# Altium integrated library con-wago.IntLib: 193 symbols (part 1 of 2)
Pins are listed as number, name and electrical type; pins without a type are passive.

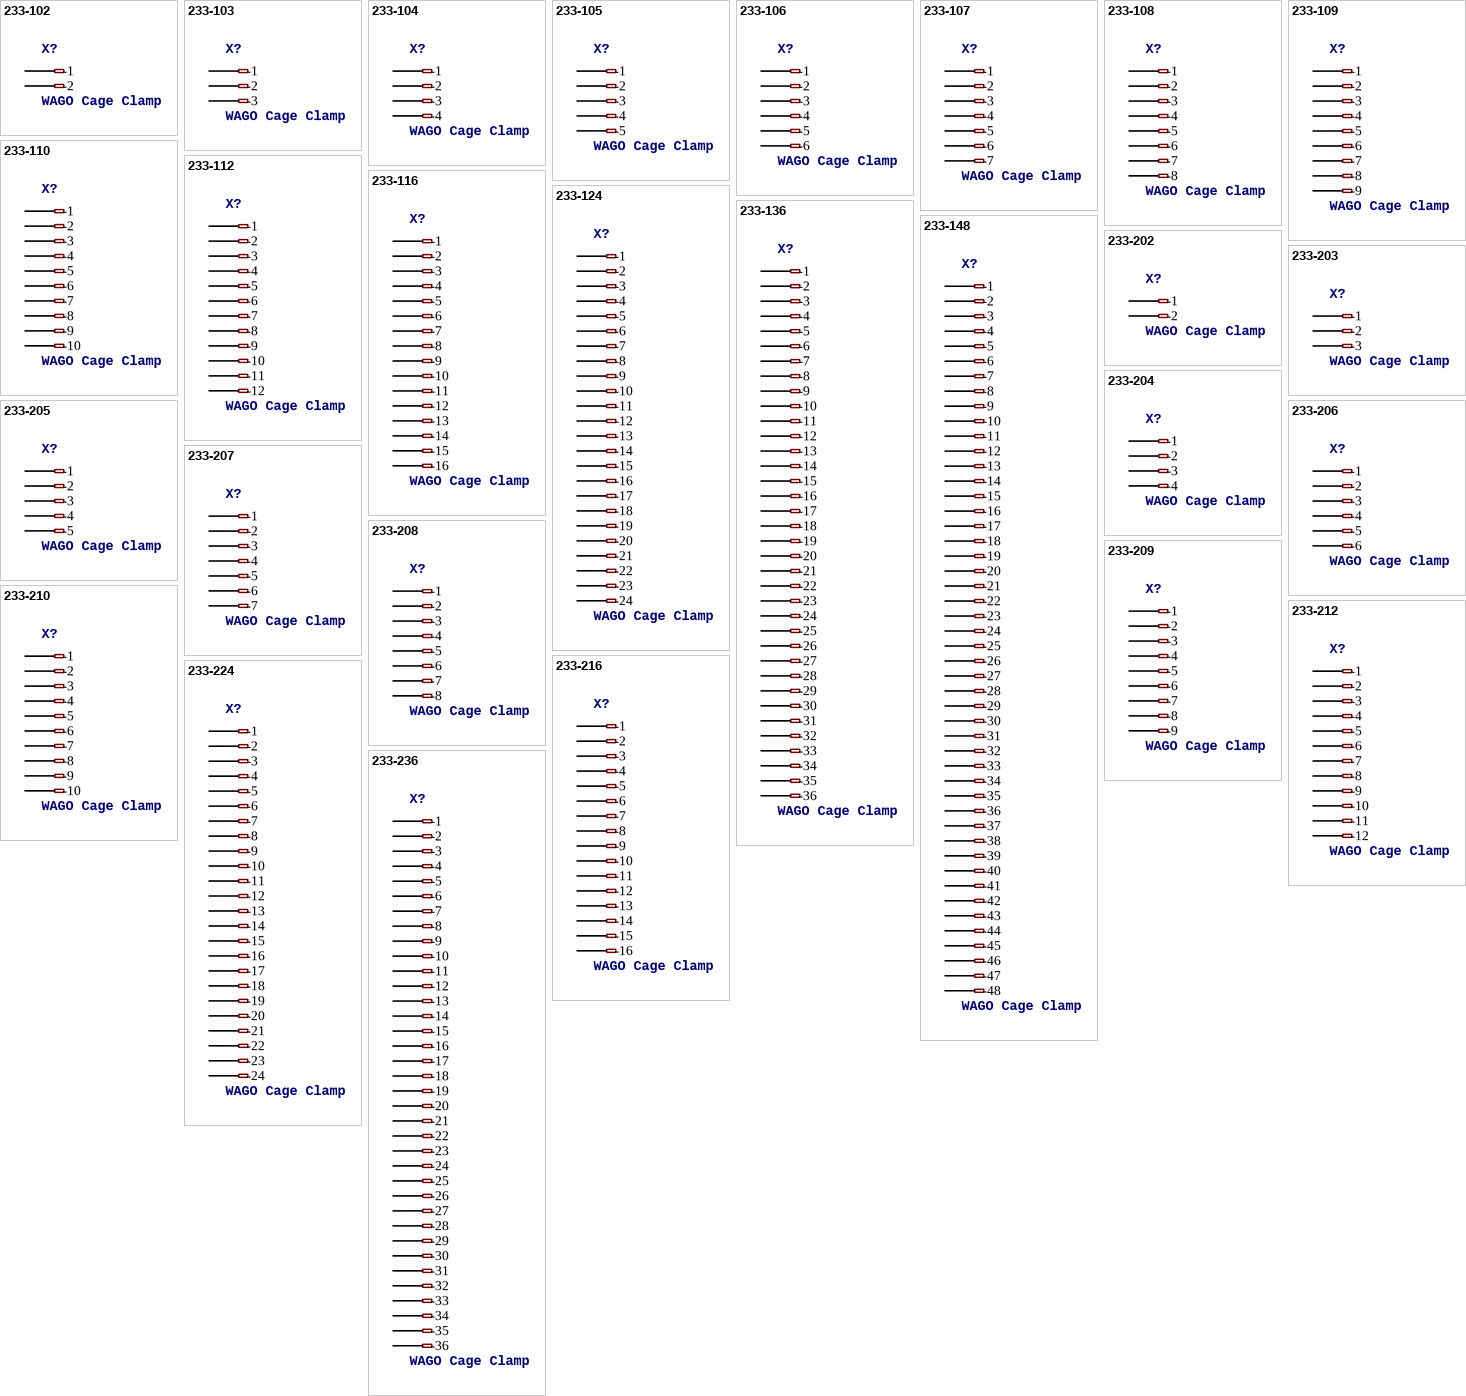
[diagram p0: symbols 233-102 to 233-236]

## 233-102
designator X?, comment WAGO Cage Clamp
MPN: 233-102; OC_FARNELL: unknown; OC_NEWARK: 28K9044
footprint 233-102
pins: A1 -1, A2 -2, B1 B-1, B2 B-2

## 233-103
designator X?, comment WAGO Cage Clamp
MPN: 233-103; OC_FARNELL: unknown; OC_NEWARK: 28K9045
footprint 233-103
pins: A1 -1, A2 -2, A3 -3, B1 B-1, B2 B-2, B3 B-3

## 233-104
designator X?, comment WAGO Cage Clamp
MPN: 233-104; OC_FARNELL: unknown; OC_NEWARK: 28K9046
footprint 233-104
pins: A1 -1, A2 -2, A3 -3, A4 -4, B1 B-1, B2 B-2, B3 B-3, B4 B-4

## 233-105
designator X?, comment WAGO Cage Clamp
MPN: 233-105; OC_FARNELL: unknown; OC_NEWARK: 28K9047
footprint 233-105
pins: A1 -1, A2 -2, A3 -3, A4 -4, A5 -5, B1 B-1, B2 B-2, B3 B-3, B4 B-4, B5 B-5

## 233-106
designator X?, comment WAGO Cage Clamp
MPN: 233-106; OC_FARNELL: unknown; OC_NEWARK: 28K9048
footprint 233-106
pins: A1 -1, A2 -2, A3 -3, A4 -4, A5 -5, A6 -6, B1 B-1, B2 B-2, B3 B-3, B4 B-4, B5 B-5, B6 B-6

## 233-107
designator X?, comment WAGO Cage Clamp
MPN: 233-107; OC_FARNELL: unknown; OC_NEWARK: 28K9049
footprint 233-107
pins: A1 -1, A2 -2, A3 -3, A4 -4, A5 -5, A6 -6, A7 -7, B1 B-1, B2 B-2, B3 B-3, B4 B-4, B5 B-5, B6 B-6, B7 B-7

## 233-108
designator X?, comment WAGO Cage Clamp
MPN: 233-108; OC_FARNELL: unknown; OC_NEWARK: 28K9050
footprint 233-108
pins: A1 -1, A2 -2, A3 -3, A4 -4, A5 -5, A6 -6, A7 -7, A8 -8, B1 B-1, B2 B-2, B3 B-3, B4 B-4, B5 B-5, B6 B-6, B7 B-7, B8 B-8

## 233-109
designator X?, comment WAGO Cage Clamp
MPN: 233-109; OC_FARNELL: unknown; OC_NEWARK: 28K9051
footprint 233-109
pins: A1 -1, A2 -2, A3 -3, A4 -4, A5 -5, A6 -6, A7 -7, A8 -8, A9 -9, B1 B-1, B2 B-2, B3 B-3, B4 B-4, B5 B-5, B6 B-6, B7 B-7, B8 B-8, B9 B-9

## 233-110
designator X?, comment WAGO Cage Clamp
MPN: 233-110; OC_FARNELL: unknown; OC_NEWARK: 28K9052
footprint 233-110
pins: A1 -1, A2 -2, A3 -3, A4 -4, A5 -5, A6 -6, A7 -7, A8 -8, A9 -9, A10 -10, B1 B-1, B2 B-2, B3 B-3, B4 B-4, B5 B-5, B6 B-6, B7 B-7, B8 B-8, B9 B-9, B10 B-10

## 233-112
designator X?, comment WAGO Cage Clamp
MPN: 233-112; OC_FARNELL: unknown; OC_NEWARK: 28K9053
footprint 233-112
pins: A1 -1, A2 -2, A3 -3, A4 -4, A5 -5, A6 -6, A7 -7, A8 -8, A9 -9, A10 -10, A11 -11, A12 -12, B1 B-1, B2 B-2, B3 B-3, B4 B-4, B5 B-5, B6 B-6, B7 B-7, B8 B-8, B9 B-9, B10 B-10, B11 B-11, B12 B-12

## 233-116
designator X?, comment WAGO Cage Clamp
MPN: 233-116; OC_FARNELL: unknown; OC_NEWARK: 28K9054
footprint 233-116
pins: A1 -1, A2 -2, A3 -3, A4 -4, A5 -5, A6 -6, A7 -7, A8 -8, A9 -9, A10 -10, A11 -11, A12 -12, A13 -13, A14 -14, A15 -15, A16 -16, B1 B-1, B2 B-2, B3 B-3, B4 B-4, B5 B-5, B6 B-6, B7 B-7, B8 B-8, B9 B-9, B10 B-10, B11 B-11, B12 B-12, B13 B-13, B14 B-14, B15 B-15, B16 B-16

## 233-124
designator X?, comment WAGO Cage Clamp
MPN: 233-124; OC_FARNELL: unknown; OC_NEWARK: 28K9056
footprint 233-124
pins: A1 -1, A2 -2, A3 -3, A4 -4, A5 -5, A6 -6, A7 -7, A8 -8, A9 -9, A10 -10, A11 -11, A12 -12, A13 -13, A14 -14, A15 -15, A16 -16, A17 -17, A18 -18, A19 -19, A20 -20, A21 -21, A22 -22, A23 -23, A24 -24, B1 B-1, B2 B-2, B3 B-3, B4 B-4, B5 B-5, B6 B-6, B7 B-7, B8 B-8, B9 B-9, B10 B-10, B11 B-11, B12 B-12, B13 B-13, B14 B-14, B15 B-15, B16 B-16, B17 B-17, B18 B-18, B19 B-19, B20 B-20, B21 B-21, B22 B-22, B23 B-23, B24 B-24

## 233-136
designator X?, comment WAGO Cage Clamp
MPN: 233-136; OC_FARNELL: unknown; OC_NEWARK: 28K9057
footprint 233-136
pins: A1 -1, A2 -2, A3 -3, A4 -4, A5 -5, A6 -6, A7 -7, A8 -8, A9 -9, A10 -10, A11 -11, A12 -12, A13 -13, A14 -14, A15 -15, A16 -16, A17 -17, A18 -18, A19 -19, A20 -20, A21 -21, A22 -22, A23 -23, A24 -24, A25 -25, A26 -26, A27 -27, A28 -28, A29 -29, A30 -30, A31 -31, A32 -32, A33 -33, A34 -34, A35 -35, A36 -36, B1 B-1, B2 B-2, B3 B-3, B4 B-4, B5 B-5, B6 B-6, B7 B-7, B8 B-8, B9 B-9, B10 B-10, B11 B-11, B12 B-12, B13 B-13, B14 B-14, B15 B-15, B16 B-16, B17 B-17, B18 B-18, B19 B-19, B20 B-20, B21 B-21, B22 B-22, B23 B-23, B24 B-24, B25 B-25, B26 B-26, B27 B-27, B28 B-28, B29 B-29, B30 B-30, B31 B-31, B32 B-32, B33 B-33, B34 B-34, B35 B-35, B36 B-36

## 233-148
designator X?, comment WAGO Cage Clamp
MPN: 233-148; OC_FARNELL: unknown; OC_NEWARK: 28K9058
footprint 233-148
pins: A1 -1, A2 -2, A3 -3, A4 -4, A5 -5, A6 -6, A7 -7, A8 -8, A9 -9, A10 -10, A11 -11, A12 -12, A13 -13, A14 -14, A15 -15, A16 -16, A17 -17, A18 -18, A19 -19, A20 -20, A21 -21, A22 -22, A23 -23, A24 -24, A25 -25, A26 -26, A27 -27, A28 -28, A29 -29, A30 -30, A31 -31, A32 -32, A33 -33, A34 -34, A35 -35, A36 -36, A37 -37, A38 -38, A39 -39, A40 -40, A41 -41, A42 -42, A43 -43, A44 -44, A45 -45, A46 -46, A47 -47, A48 -48, B1 B-1, B2 B-2, B3 B-3, B4 B-4, B5 B-5, B6 B-6, B7 B-7, B8 B-8, B9 B-9, B10 B-10, B11 B-11, B12 B-12, B13 B-13, B14 B-14, B15 B-15, B16 B-16, B17 B-17, B18 B-18, B19 B-19, B20 B-20, B21 B-21, B22 B-22, B23 B-23, B24 B-24, B25 B-25, B26 B-26, B27 B-27, B28 B-28, B29 B-29, B30 B-30, B31 B-31, B32 B-32, B33 B-33, B34 B-34, B35 B-35, B36 B-36, B37 B-37, B38 B-38, B39 B-39, B40 B-40, B41 B-41, B42 B-42, B43 B-43, B44 B-44, B45 B-45, B46 B-46, B47 B-47, B48 B-48

## 233-202
designator X?, comment WAGO Cage Clamp
MPN: 233-202; OC_FARNELL: 1283532; OC_NEWARK: 28K9059
footprint 233-202
pins: A1 -1, A2 -2, B1 B-1, B2 B-2

## 233-203
designator X?, comment WAGO Cage Clamp
MPN: 233-203; OC_FARNELL: 1283533; OC_NEWARK: 28K9060
footprint 233-203
pins: A1 -1, A2 -2, A3 -3, B1 B-1, B2 B-2, B3 B-3

## 233-204
designator X?, comment WAGO Cage Clamp
MPN: 233-204; OC_FARNELL: 1283535; OC_NEWARK: 28K9061
footprint 233-204
pins: A1 -1, A2 -2, A3 -3, A4 -4, B1 B-1, B2 B-2, B3 B-3, B4 B-4

## 233-205
designator X?, comment WAGO Cage Clamp
MPN: 233-205; OC_FARNELL: unknown; OC_NEWARK: 28K9062
footprint 233-205
pins: A1 -1, A2 -2, A3 -3, A4 -4, A5 -5, B1 B-1, B2 B-2, B3 B-3, B4 B-4, B5 B-5

## 233-206
designator X?, comment WAGO Cage Clamp
MPN: 233-206; OC_FARNELL: 1283536; OC_NEWARK: 28K9063
footprint 233-206
pins: A1 -1, A2 -2, A3 -3, A4 -4, A5 -5, A6 -6, B1 B-1, B2 B-2, B3 B-3, B4 B-4, B5 B-5, B6 B-6

## 233-207
designator X?, comment WAGO Cage Clamp
MPN: 233-207; OC_FARNELL: unknown; OC_NEWARK: 28K9064
footprint 233-207
pins: A1 -1, A2 -2, A3 -3, A4 -4, A5 -5, A6 -6, A7 -7, B1 B-1, B2 B-2, B3 B-3, B4 B-4, B5 B-5, B6 B-6, B7 B-7

## 233-208
designator X?, comment WAGO Cage Clamp
MPN: 233-208; OC_FARNELL: 1283537; OC_NEWARK: 28K9065
footprint 233-208
pins: A1 -1, A2 -2, A3 -3, A4 -4, A5 -5, A6 -6, A7 -7, A8 -8, B1 B-1, B2 B-2, B3 B-3, B4 B-4, B5 B-5, B6 B-6, B7 B-7, B8 B-8

## 233-209
designator X?, comment WAGO Cage Clamp
MPN: 233-209; OC_FARNELL: unknown; OC_NEWARK: 28K9066
footprint 233-209
pins: A1 -1, A2 -2, A3 -3, A4 -4, A5 -5, A6 -6, A7 -7, A8 -8, A9 -9, B1 B-1, B2 B-2, B3 B-3, B4 B-4, B5 B-5, B6 B-6, B7 B-7, B8 B-8, B9 B-9

## 233-210
designator X?, comment WAGO Cage Clamp
MPN: 233-210; OC_FARNELL: unknown; OC_NEWARK: 28K9067
footprint 233-210
pins: A1 -1, A2 -2, A3 -3, A4 -4, A5 -5, A6 -6, A7 -7, A8 -8, A9 -9, A10 -10, B1 B-1, B2 B-2, B3 B-3, B4 B-4, B5 B-5, B6 B-6, B7 B-7, B8 B-8, B9 B-9, B10 B-10

## 233-212
designator X?, comment WAGO Cage Clamp
MPN: 233-212; OC_FARNELL: 1283538; OC_NEWARK: 28K9068
footprint 233-212
pins: A1 -1, A2 -2, A3 -3, A4 -4, A5 -5, A6 -6, A7 -7, A8 -8, A9 -9, A10 -10, A11 -11, A12 -12, B1 B-1, B2 B-2, B3 B-3, B4 B-4, B5 B-5, B6 B-6, B7 B-7, B8 B-8, B9 B-9, B10 B-10, B11 B-11, B12 B-12

## 233-216
designator X?, comment WAGO Cage Clamp
MPN: 233-216; OC_FARNELL: unknown; OC_NEWARK: 28K9069
footprint 233-216
pins: A1 -1, A2 -2, A3 -3, A4 -4, A5 -5, A6 -6, A7 -7, A8 -8, A9 -9, A10 -10, A11 -11, A12 -12, A13 -13, A14 -14, A15 -15, A16 -16, B1 B-1, B2 B-2, B3 B-3, B4 B-4, B5 B-5, B6 B-6, B7 B-7, B8 B-8, B9 B-9, B10 B-10, B11 B-11, B12 B-12, B13 B-13, B14 B-14, B15 B-15, B16 B-16

## 233-224
designator X?, comment WAGO Cage Clamp
MPN: 233-224; OC_FARNELL: unknown; OC_NEWARK: 28K9070
footprint 233-224
pins: A1 -1, A2 -2, A3 -3, A4 -4, A5 -5, A6 -6, A7 -7, A8 -8, A9 -9, A10 -10, A11 -11, A12 -12, A13 -13, A14 -14, A15 -15, A16 -16, A17 -17, A18 -18, A19 -19, A20 -20, A21 -21, A22 -22, A23 -23, A24 -24, B1 B-1, B2 B-2, B3 B-3, B4 B-4, B5 B-5, B6 B-6, B7 B-7, B8 B-8, B9 B-9, B10 B-10, B11 B-11, B12 B-12, B13 B-13, B14 B-14, B15 B-15, B16 B-16, B17 B-17, B18 B-18, B19 B-19, B20 B-20, B21 B-21, B22 B-22, B23 B-23, B24 B-24

## 233-236
designator X?, comment WAGO Cage Clamp
MPN: 233-236; OC_FARNELL: unknown; OC_NEWARK: 28K9071
footprint 233-236
pins: A1 -1, A2 -2, A3 -3, A4 -4, A5 -5, A6 -6, A7 -7, A8 -8, A9 -9, A10 -10, A11 -11, A12 -12, A13 -13, A14 -14, A15 -15, A16 -16, A17 -17, A18 -18, A19 -19, A20 -20, A21 -21, A22 -22, A23 -23, A24 -24, A25 -25, A26 -26, A27 -27, A28 -28, A29 -29, A30 -30, A31 -31, A32 -32, A33 -33, A34 -34, A35 -35, A36 -36, B1 B-1, B2 B-2, B3 B-3, B4 B-4, B5 B-5, B6 B-6, B7 B-7, B8 B-8, B9 B-9, B10 B-10, B11 B-11, B12 B-12, B13 B-13, B14 B-14, B15 B-15, B16 B-16, B17 B-17, B18 B-18, B19 B-19, B20 B-20, B21 B-21, B22 B-22, B23 B-23, B24 B-24, B25 B-25, B26 B-26, B27 B-27, B28 B-28, B29 B-29, B30 B-30, B31 B-31, B32 B-32, B33 B-33, B34 B-34, B35 B-35, B36 B-36

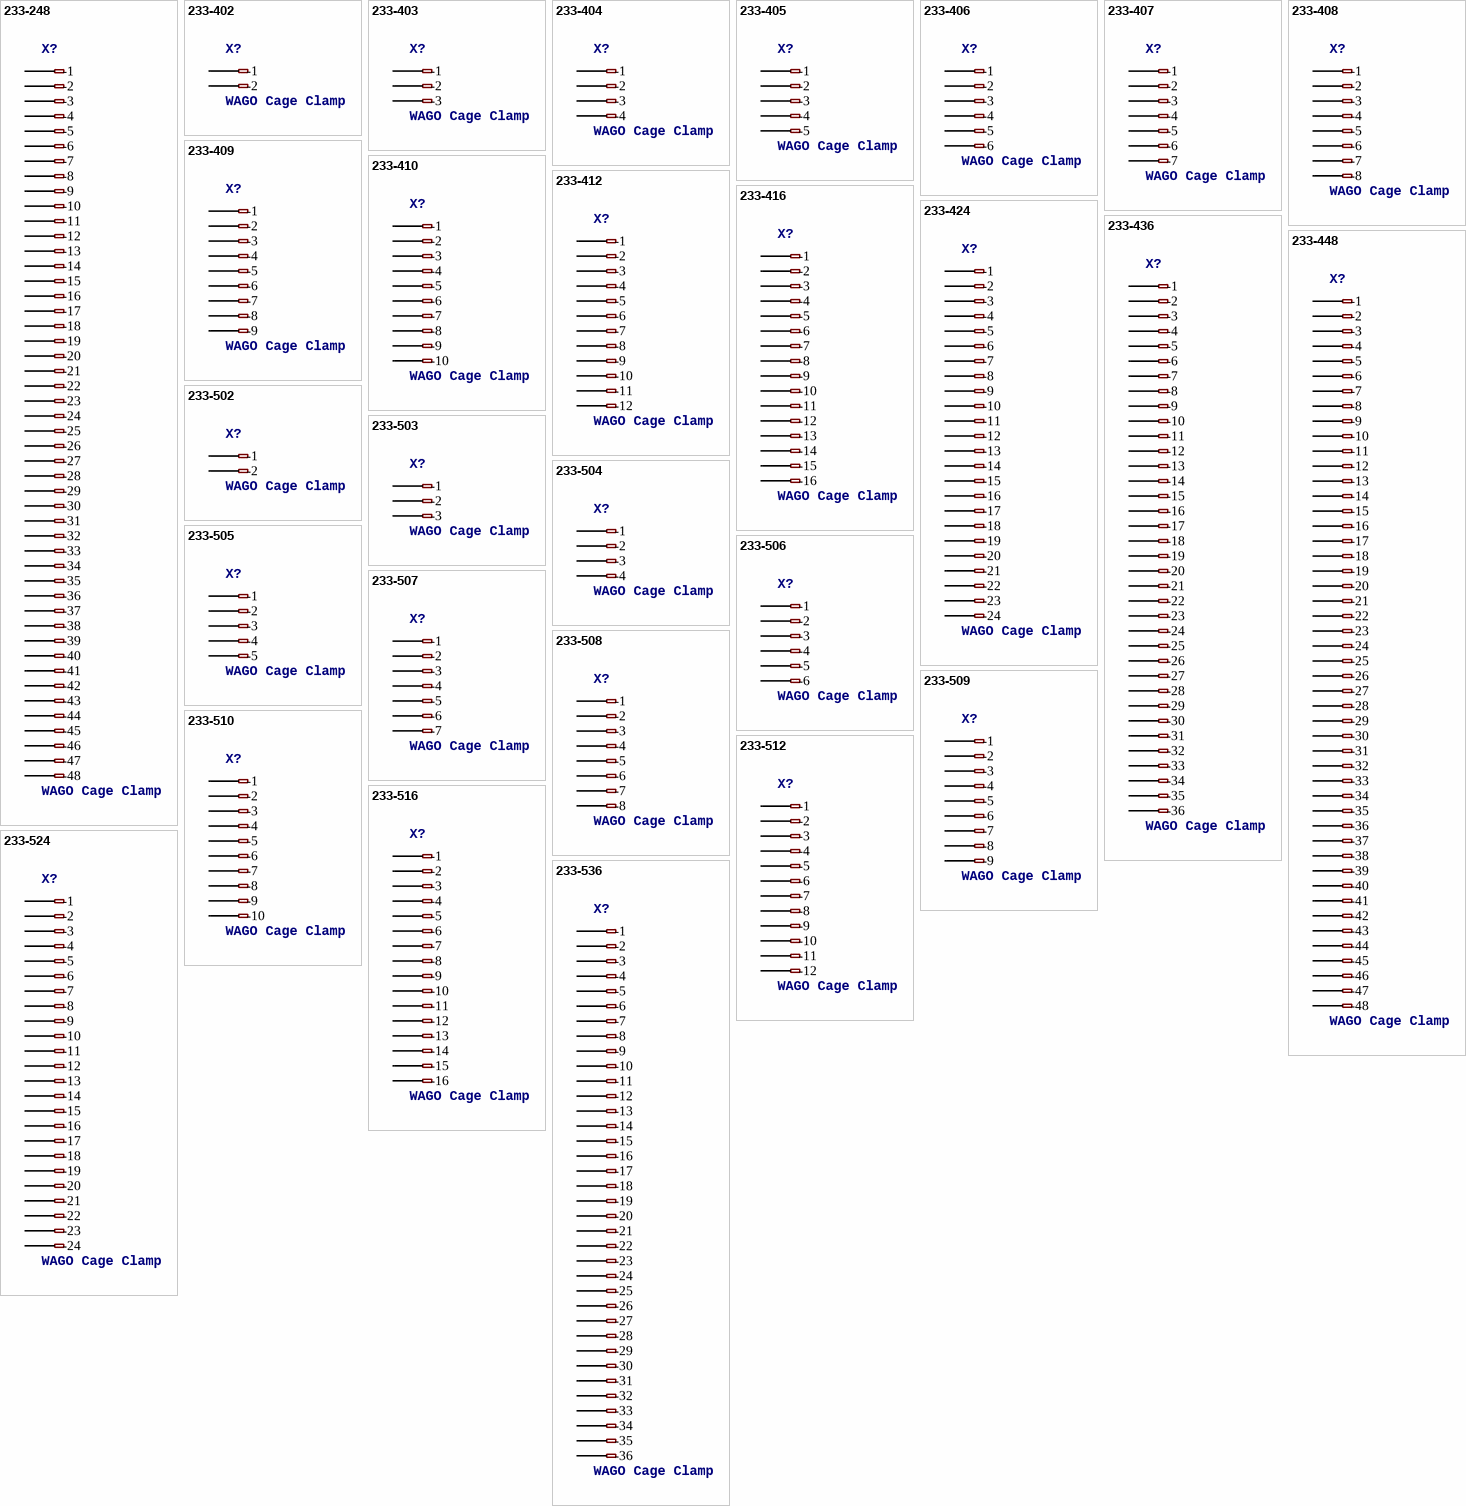
[diagram p1: symbols 233-248 to 233-536]

## 233-248
designator X?, comment WAGO Cage Clamp
MPN: 233-248; OC_FARNELL: unknown; OC_NEWARK: 28K9072
footprint 233-248
pins: A1 -1, A2 -2, A3 -3, A4 -4, A5 -5, A6 -6, A7 -7, A8 -8, A9 -9, A10 -10, A11 -11, A12 -12, A13 -13, A14 -14, A15 -15, A16 -16, A17 -17, A18 -18, A19 -19, A20 -20, A21 -21, A22 -22, A23 -23, A24 -24, A25 -25, A26 -26, A27 -27, A28 -28, A29 -29, A30 -30, A31 -31, A32 -32, A33 -33, A34 -34, A35 -35, A36 -36, A37 -37, A38 -38, A39 -39, A40 -40, A41 -41, A42 -42, A43 -43, A44 -44, A45 -45, A46 -46, A47 -47, A48 -48, B1 B-1, B2 B-2, B3 B-3, B4 B-4, B5 B-5, B6 B-6, B7 B-7, B8 B-8, B9 B-9, B10 B-10, B11 B-11, B12 B-12, B13 B-13, B14 B-14, B15 B-15, B16 B-16, B17 B-17, B18 B-18, B19 B-19, B20 B-20, B21 B-21, B22 B-22, B23 B-23, B24 B-24, B25 B-25, B26 B-26, B27 B-27, B28 B-28, B29 B-29, B30 B-30, B31 B-31, B32 B-32, B33 B-33, B34 B-34, B35 B-35, B36 B-36, B37 B-37, B38 B-38, B39 B-39, B40 B-40, B41 B-41, B42 B-42, B43 B-43, B44 B-44, B45 B-45, B46 B-46, B47 B-47, B48 B-48

## 233-402
designator X?, comment WAGO Cage Clamp
MPN: 233-402; OC_FARNELL: 1601353; OC_NEWARK: 28K9075
footprint 233-402
pins: A1 -1, A2 -2, B1 B-1, B2 B-2

## 233-403
designator X?, comment WAGO Cage Clamp
MPN: 233-403; OC_FARNELL: 1601354; OC_NEWARK: 28K9076
footprint 233-403
pins: A1 -1, A2 -2, A3 -3, B1 B-1, B2 B-2, B3 B-3

## 233-404
designator X?, comment WAGO Cage Clamp
MPN: 233-404; OC_FARNELL: 1601355; OC_NEWARK: 28K9077
footprint 233-404
pins: A1 -1, A2 -2, A3 -3, A4 -4, B1 B-1, B2 B-2, B3 B-3, B4 B-4

## 233-405
designator X?, comment WAGO Cage Clamp
MPN: 233-405; OC_FARNELL: 1601356; OC_NEWARK: 28K9078
footprint 233-405
pins: A1 -1, A2 -2, A3 -3, A4 -4, A5 -5, B1 B-1, B2 B-2, B3 B-3, B4 B-4, B5 B-5

## 233-406
designator X?, comment WAGO Cage Clamp
MPN: 233-406; OC_FARNELL: 1601357; OC_NEWARK: 28K9079
footprint 233-406
pins: A1 -1, A2 -2, A3 -3, A4 -4, A5 -5, A6 -6, B1 B-1, B2 B-2, B3 B-3, B4 B-4, B5 B-5, B6 B-6

## 233-407
designator X?, comment WAGO Cage Clamp
MPN: 233-407; OC_FARNELL: unknown; OC_NEWARK: 11N6400
footprint 233-407
pins: A1 -1, A2 -2, A3 -3, A4 -4, A5 -5, A6 -6, A7 -7, B1 B-1, B2 B-2, B3 B-3, B4 B-4, B5 B-5, B6 B-6, B7 B-7

## 233-408
designator X?, comment WAGO Cage Clamp
MPN: 233-408; OC_FARNELL: 1601358; OC_NEWARK: 28K9080
footprint 233-408
pins: A1 -1, A2 -2, A3 -3, A4 -4, A5 -5, A6 -6, A7 -7, A8 -8, B1 B-1, B2 B-2, B3 B-3, B4 B-4, B5 B-5, B6 B-6, B7 B-7, B8 B-8

## 233-409
designator X?, comment WAGO Cage Clamp
MPN: 233-409; OC_FARNELL: unknown; OC_NEWARK: 28K9081
footprint 233-409
pins: A1 -1, A2 -2, A3 -3, A4 -4, A5 -5, A6 -6, A7 -7, A8 -8, A9 -9, B1 B-1, B2 B-2, B3 B-3, B4 B-4, B5 B-5, B6 B-6, B7 B-7, B8 B-8, B9 B-9

## 233-410
designator X?, comment WAGO Cage Clamp
MPN: 233-410; OC_FARNELL: 1601359; OC_NEWARK: 28K9082
footprint 233-410
pins: A1 -1, A2 -2, A3 -3, A4 -4, A5 -5, A6 -6, A7 -7, A8 -8, A9 -9, A10 -10, B1 B-1, B2 B-2, B3 B-3, B4 B-4, B5 B-5, B6 B-6, B7 B-7, B8 B-8, B9 B-9, B10 B-10

## 233-412
designator X?, comment WAGO Cage Clamp
MPN: 233-412; OC_FARNELL: 1601360; OC_NEWARK: 28K9083
footprint 233-412
pins: A1 -1, A2 -2, A3 -3, A4 -4, A5 -5, A6 -6, A7 -7, A8 -8, A9 -9, A10 -10, A11 -11, A12 -12, B1 B-1, B2 B-2, B3 B-3, B4 B-4, B5 B-5, B6 B-6, B7 B-7, B8 B-8, B9 B-9, B10 B-10, B11 B-11, B12 B-12

## 233-416
designator X?, comment WAGO Cage Clamp
MPN: 233-416; OC_FARNELL: 1601361; OC_NEWARK: 28K9084
footprint 233-416
pins: A1 -1, A2 -2, A3 -3, A4 -4, A5 -5, A6 -6, A7 -7, A8 -8, A9 -9, A10 -10, A11 -11, A12 -12, A13 -13, A14 -14, A15 -15, A16 -16, B1 B-1, B2 B-2, B3 B-3, B4 B-4, B5 B-5, B6 B-6, B7 B-7, B8 B-8, B9 B-9, B10 B-10, B11 B-11, B12 B-12, B13 B-13, B14 B-14, B15 B-15, B16 B-16

## 233-424
designator X?, comment WAGO Cage Clamp
MPN: 233-424; OC_FARNELL: 1601363; OC_NEWARK: 28K9085
footprint 233-424
pins: A1 -1, A2 -2, A3 -3, A4 -4, A5 -5, A6 -6, A7 -7, A8 -8, A9 -9, A10 -10, A11 -11, A12 -12, A13 -13, A14 -14, A15 -15, A16 -16, A17 -17, A18 -18, A19 -19, A20 -20, A21 -21, A22 -22, A23 -23, A24 -24, B1 B-1, B2 B-2, B3 B-3, B4 B-4, B5 B-5, B6 B-6, B7 B-7, B8 B-8, B9 B-9, B10 B-10, B11 B-11, B12 B-12, B13 B-13, B14 B-14, B15 B-15, B16 B-16, B17 B-17, B18 B-18, B19 B-19, B20 B-20, B21 B-21, B22 B-22, B23 B-23, B24 B-24

## 233-436
designator X?, comment WAGO Cage Clamp
OC_FARNELL: unknown; OC_NEWARK: unknown
footprint 233-436
pins: A1 -1, A2 -2, A3 -3, A4 -4, A5 -5, A6 -6, A7 -7, A8 -8, A9 -9, A10 -10, A11 -11, A12 -12, A13 -13, A14 -14, A15 -15, A16 -16, A17 -17, A18 -18, A19 -19, A20 -20, A21 -21, A22 -22, A23 -23, A24 -24, A25 -25, A26 -26, A27 -27, A28 -28, A29 -29, A30 -30, A31 -31, A32 -32, A33 -33, A34 -34, A35 -35, A36 -36, B1 B-1, B2 B-2, B3 B-3, B4 B-4, B5 B-5, B6 B-6, B7 B-7, B8 B-8, B9 B-9, B10 B-10, B11 B-11, B12 B-12, B13 B-13, B14 B-14, B15 B-15, B16 B-16, B17 B-17, B18 B-18, B19 B-19, B20 B-20, B21 B-21, B22 B-22, B23 B-23, B24 B-24, B25 B-25, B26 B-26, B27 B-27, B28 B-28, B29 B-29, B30 B-30, B31 B-31, B32 B-32, B33 B-33, B34 B-34, B35 B-35, B36 B-36

## 233-448
designator X?, comment WAGO Cage Clamp
MPN: 233-448; OC_FARNELL: unknown; OC_NEWARK: 28K9086
footprint 233-448
pins: A1 -1, A2 -2, A3 -3, A4 -4, A5 -5, A6 -6, A7 -7, A8 -8, A9 -9, A10 -10, A11 -11, A12 -12, A13 -13, A14 -14, A15 -15, A16 -16, A17 -17, A18 -18, A19 -19, A20 -20, A21 -21, A22 -22, A23 -23, A24 -24, A25 -25, A26 -26, A27 -27, A28 -28, A29 -29, A30 -30, A31 -31, A32 -32, A33 -33, A34 -34, A35 -35, A36 -36, A37 -37, A38 -38, A39 -39, A40 -40, A41 -41, A42 -42, A43 -43, A44 -44, A45 -45, A46 -46, A47 -47, A48 -48, B1 B-1, B2 B-2, B3 B-3, B4 B-4, B5 B-5, B6 B-6, B7 B-7, B8 B-8, B9 B-9, B10 B-10, B11 B-11, B12 B-12, B13 B-13, B14 B-14, B15 B-15, B16 B-16, B17 B-17, B18 B-18, B19 B-19, B20 B-20, B21 B-21, B22 B-22, B23 B-23, B24 B-24, B25 B-25, B26 B-26, B27 B-27, B28 B-28, B29 B-29, B30 B-30, B31 B-31, B32 B-32, B33 B-33, B34 B-34, B35 B-35, B36 B-36, B37 B-37, B38 B-38, B39 B-39, B40 B-40, B41 B-41, B42 B-42, B43 B-43, B44 B-44, B45 B-45, B46 B-46, B47 B-47, B48 B-48

## 233-502
designator X?, comment WAGO Cage Clamp
MPN: 233-502; OC_FARNELL: 1777096; OC_NEWARK: 58M2630
footprint 233-502
pins: A1 -1, A2 -2, B1 B-1, B2 B-2

## 233-503
designator X?, comment WAGO Cage Clamp
MPN: 0233-0503; MF: Wago Corporation; OC_FARNELL: 1777097; OC_NEWARK: 79K2049
footprint 233-503
pins: A1 -1, A2 -2, A3 -3, B1 B-1, B2 B-2, B3 B-3

## 233-504
designator X?, comment WAGO Cage Clamp
MPN: 0233-0504; MF: Wago Corporation; OC_FARNELL: 1777098; OC_NEWARK: 79K2050
footprint 233-504
pins: A1 -1, A2 -2, A3 -3, A4 -4, B1 B-1, B2 B-2, B3 B-3, B4 B-4

## 233-505
designator X?, comment WAGO Cage Clamp
MPN: 0233-0505; MF: Wago Corporation; OC_FARNELL: unknown; OC_NEWARK: 79K2051
footprint 233-505
pins: A1 -1, A2 -2, A3 -3, A4 -4, A5 -5, B1 B-1, B2 B-2, B3 B-3, B4 B-4, B5 B-5

## 233-506
designator X?, comment WAGO Cage Clamp
MPN: 0233-0506; MF: Wago Corporation; OC_FARNELL: 1777100; OC_NEWARK: 79K2052
footprint 233-506
pins: A1 -1, A2 -2, A3 -3, A4 -4, A5 -5, A6 -6, B1 B-1, B2 B-2, B3 B-3, B4 B-4, B5 B-5, B6 B-6

## 233-507
designator X?, comment WAGO Cage Clamp
MPN: 233-507; OC_FARNELL: unknown; OC_NEWARK: 28K9087
footprint 233-507
pins: A1 -1, A2 -2, A3 -3, A4 -4, A5 -5, A6 -6, A7 -7, B1 B-1, B2 B-2, B3 B-3, B4 B-4, B5 B-5, B6 B-6, B7 B-7

## 233-508
designator X?, comment WAGO Cage Clamp
MPN: 0233-0508; MF: Wago Corporation; OC_FARNELL: 1777101; OC_NEWARK: 79K2053
footprint 233-508
pins: A1 -1, A2 -2, A3 -3, A4 -4, A5 -5, A6 -6, A7 -7, A8 -8, B1 B-1, B2 B-2, B3 B-3, B4 B-4, B5 B-5, B6 B-6, B7 B-7, B8 B-8

## 233-509
designator X?, comment WAGO Cage Clamp
MPN: 233-509; OC_FARNELL: unknown; OC_NEWARK: 28K9088
footprint 233-509
pins: A1 -1, A2 -2, A3 -3, A4 -4, A5 -5, A6 -6, A7 -7, A8 -8, A9 -9, B1 B-1, B2 B-2, B3 B-3, B4 B-4, B5 B-5, B6 B-6, B7 B-7, B8 B-8, B9 B-9

## 233-510
designator X?, comment WAGO Cage Clamp
MPN: 0233-0510; MF: Wago Corporation; OC_FARNELL: unknown; OC_NEWARK: 79K2054
footprint 233-510
pins: A1 -1, A2 -2, A3 -3, A4 -4, A5 -5, A6 -6, A7 -7, A8 -8, A9 -9, A10 -10, B1 B-1, B2 B-2, B3 B-3, B4 B-4, B5 B-5, B6 B-6, B7 B-7, B8 B-8, B9 B-9, B10 B-10

## 233-512
designator X?, comment WAGO Cage Clamp
MPN: 0233-0512; MF: Wago Corporation; OC_FARNELL: 1777102; OC_NEWARK: 79K2055
footprint 233-512
pins: A1 -1, A2 -2, A3 -3, A4 -4, A5 -5, A6 -6, A7 -7, A8 -8, A9 -9, A10 -10, A11 -11, A12 -12, B1 B-1, B2 B-2, B3 B-3, B4 B-4, B5 B-5, B6 B-6, B7 B-7, B8 B-8, B9 B-9, B10 B-10, B11 B-11, B12 B-12

## 233-516
designator X?, comment WAGO Cage Clamp
MPN: 0233-0516; MF: Wago Corporation; OC_FARNELL: 1777103; OC_NEWARK: 79K2056
footprint 233-516
pins: A1 -1, A2 -2, A3 -3, A4 -4, A5 -5, A6 -6, A7 -7, A8 -8, A9 -9, A10 -10, A11 -11, A12 -12, A13 -13, A14 -14, A15 -15, A16 -16, B1 B-1, B2 B-2, B3 B-3, B4 B-4, B5 B-5, B6 B-6, B7 B-7, B8 B-8, B9 B-9, B10 B-10, B11 B-11, B12 B-12, B13 B-13, B14 B-14, B15 B-15, B16 B-16

## 233-524
designator X?, comment WAGO Cage Clamp
MPN: 0233-0524; MF: Wago Corporation; OC_FARNELL: 1777104; OC_NEWARK: 79K2057
footprint 233-524
pins: A1 -1, A2 -2, A3 -3, A4 -4, A5 -5, A6 -6, A7 -7, A8 -8, A9 -9, A10 -10, A11 -11, A12 -12, A13 -13, A14 -14, A15 -15, A16 -16, A17 -17, A18 -18, A19 -19, A20 -20, A21 -21, A22 -22, A23 -23, A24 -24, B1 B-1, B2 B-2, B3 B-3, B4 B-4, B5 B-5, B6 B-6, B7 B-7, B8 B-8, B9 B-9, B10 B-10, B11 B-11, B12 B-12, B13 B-13, B14 B-14, B15 B-15, B16 B-16, B17 B-17, B18 B-18, B19 B-19, B20 B-20, B21 B-21, B22 B-22, B23 B-23, B24 B-24

## 233-536
designator X?, comment WAGO Cage Clamp
MPN: 233-536; OC_FARNELL: unknown; OC_NEWARK: 28K9089
footprint 233-536
pins: A1 -1, A2 -2, A3 -3, A4 -4, A5 -5, A6 -6, A7 -7, A8 -8, A9 -9, A10 -10, A11 -11, A12 -12, A13 -13, A14 -14, A15 -15, A16 -16, A17 -17, A18 -18, A19 -19, A20 -20, A21 -21, A22 -22, A23 -23, A24 -24, A25 -25, A26 -26, A27 -27, A28 -28, A29 -29, A30 -30, A31 -31, A32 -32, A33 -33, A34 -34, A35 -35, A36 -36, B1 B-1, B2 B-2, B3 B-3, B4 B-4, B5 B-5, B6 B-6, B7 B-7, B8 B-8, B9 B-9, B10 B-10, B11 B-11, B12 B-12, B13 B-13, B14 B-14, B15 B-15, B16 B-16, B17 B-17, B18 B-18, B19 B-19, B20 B-20, B21 B-21, B22 B-22, B23 B-23, B24 B-24, B25 B-25, B26 B-26, B27 B-27, B28 B-28, B29 B-29, B30 B-30, B31 B-31, B32 B-32, B33 B-33, B34 B-34, B35 B-35, B36 B-36

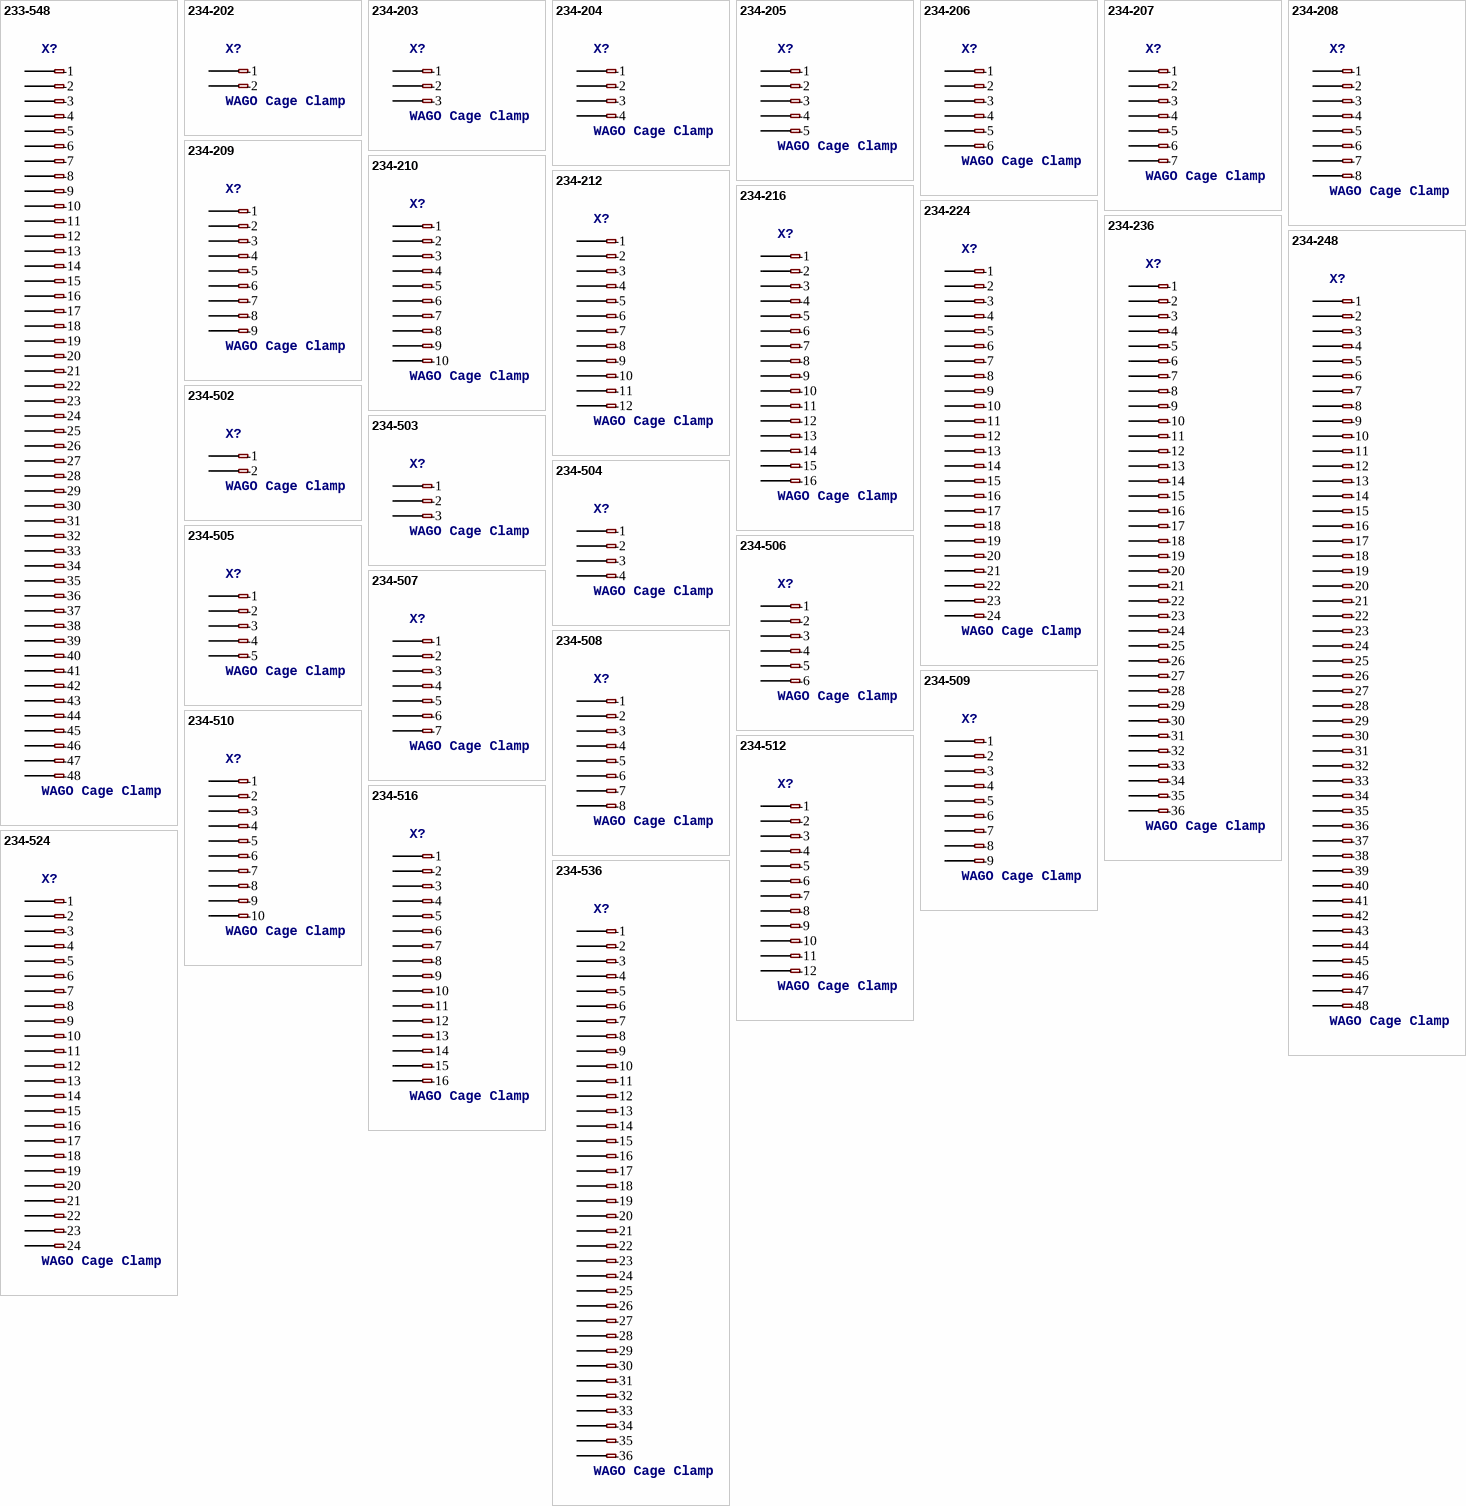
[diagram p2: symbols 233-548 to 234-536]

## 233-548
designator X?, comment WAGO Cage Clamp
MPN: 233-548; OC_FARNELL: unknown; OC_NEWARK: 28K9090
footprint 233-548
pins: A1 -1, A2 -2, A3 -3, A4 -4, A5 -5, A6 -6, A7 -7, A8 -8, A9 -9, A10 -10, A11 -11, A12 -12, A13 -13, A14 -14, A15 -15, A16 -16, A17 -17, A18 -18, A19 -19, A20 -20, A21 -21, A22 -22, A23 -23, A24 -24, A25 -25, A26 -26, A27 -27, A28 -28, A29 -29, A30 -30, A31 -31, A32 -32, A33 -33, A34 -34, A35 -35, A36 -36, A37 -37, A38 -38, A39 -39, A40 -40, A41 -41, A42 -42, A43 -43, A44 -44, A45 -45, A46 -46, A47 -47, A48 -48, B1 B-1, B2 B-2, B3 B-3, B4 B-4, B5 B-5, B6 B-6, B7 B-7, B8 B-8, B9 B-9, B10 B-10, B11 B-11, B12 B-12, B13 B-13, B14 B-14, B15 B-15, B16 B-16, B17 B-17, B18 B-18, B19 B-19, B20 B-20, B21 B-21, B22 B-22, B23 B-23, B24 B-24, B25 B-25, B26 B-26, B27 B-27, B28 B-28, B29 B-29, B30 B-30, B31 B-31, B32 B-32, B33 B-33, B34 B-34, B35 B-35, B36 B-36, B37 B-37, B38 B-38, B39 B-39, B40 B-40, B41 B-41, B42 B-42, B43 B-43, B44 B-44, B45 B-45, B46 B-46, B47 B-47, B48 B-48

## 234-202
designator X?, comment WAGO Cage Clamp
MPN: 234-202; OC_FARNELL: unknown; OC_NEWARK: 28K9091
footprint 234-202
pins: A1 -1, A2 -2, B1 B-1, B2 B-2

## 234-203
designator X?, comment WAGO Cage Clamp
MPN: 234-203; OC_FARNELL: unknown; OC_NEWARK: 28K9092
footprint 234-203
pins: A1 -1, A2 -2, A3 -3, B1 B-1, B2 B-2, B3 B-3

## 234-204
designator X?, comment WAGO Cage Clamp
MPN: 234-204; OC_FARNELL: unknown; OC_NEWARK: 28K9093
footprint 234-204
pins: A1 -1, A2 -2, A3 -3, A4 -4, B1 B-1, B2 B-2, B3 B-3, B4 B-4

## 234-205
designator X?, comment WAGO Cage Clamp
MPN: 234-205; OC_FARNELL: unknown; OC_NEWARK: 28K9094
footprint 234-205
pins: A1 -1, A2 -2, A3 -3, A4 -4, A5 -5, B1 B-1, B2 B-2, B3 B-3, B4 B-4, B5 B-5

## 234-206
designator X?, comment WAGO Cage Clamp
MPN: 234-206; OC_FARNELL: unknown; OC_NEWARK: 28K9095
footprint 234-206
pins: A1 -1, A2 -2, A3 -3, A4 -4, A5 -5, A6 -6, B1 B-1, B2 B-2, B3 B-3, B4 B-4, B5 B-5, B6 B-6

## 234-207
designator X?, comment WAGO Cage Clamp
MPN: 234-207; OC_FARNELL: unknown; OC_NEWARK: 28K9096
footprint 234-207
pins: A1 -1, A2 -2, A3 -3, A4 -4, A5 -5, A6 -6, A7 -7, B1 B-1, B2 B-2, B3 B-3, B4 B-4, B5 B-5, B6 B-6, B7 B-7

## 234-208
designator X?, comment WAGO Cage Clamp
MPN: 234-208; OC_FARNELL: unknown; OC_NEWARK: 28K9097
footprint 234-208
pins: A1 -1, A2 -2, A3 -3, A4 -4, A5 -5, A6 -6, A7 -7, A8 -8, B1 B-1, B2 B-2, B3 B-3, B4 B-4, B5 B-5, B6 B-6, B7 B-7, B8 B-8

## 234-209
designator X?, comment WAGO Cage Clamp
MPN: 234-209; OC_FARNELL: unknown; OC_NEWARK: 28K9098
footprint 234-209
pins: A1 -1, A2 -2, A3 -3, A4 -4, A5 -5, A6 -6, A7 -7, A8 -8, A9 -9, B1 B-1, B2 B-2, B3 B-3, B4 B-4, B5 B-5, B6 B-6, B7 B-7, B8 B-8, B9 B-9

## 234-210
designator X?, comment WAGO Cage Clamp
MPN: 234-210; OC_FARNELL: unknown; OC_NEWARK: 28K9099
footprint 234-210
pins: A1 -1, A2 -2, A3 -3, A4 -4, A5 -5, A6 -6, A7 -7, A8 -8, A9 -9, A10 -10, B1 B-1, B2 B-2, B3 B-3, B4 B-4, B5 B-5, B6 B-6, B7 B-7, B8 B-8, B9 B-9, B10 B-10

## 234-212
designator X?, comment WAGO Cage Clamp
MPN: 234-212; OC_FARNELL: unknown; OC_NEWARK: 28K9100
footprint 234-212
pins: A1 -1, A2 -2, A3 -3, A4 -4, A5 -5, A6 -6, A7 -7, A8 -8, A9 -9, A10 -10, A11 -11, A12 -12, B1 B-1, B2 B-2, B3 B-3, B4 B-4, B5 B-5, B6 B-6, B7 B-7, B8 B-8, B9 B-9, B10 B-10, B11 B-11, B12 B-12

## 234-216
designator X?, comment WAGO Cage Clamp
MPN: 234-216; OC_FARNELL: unknown; OC_NEWARK: 28K9101
footprint 234-216
pins: A1 -1, A2 -2, A3 -3, A4 -4, A5 -5, A6 -6, A7 -7, A8 -8, A9 -9, A10 -10, A11 -11, A12 -12, A13 -13, A14 -14, A15 -15, A16 -16, B1 B-1, B2 B-2, B3 B-3, B4 B-4, B5 B-5, B6 B-6, B7 B-7, B8 B-8, B9 B-9, B10 B-10, B11 B-11, B12 B-12, B13 B-13, B14 B-14, B15 B-15, B16 B-16

## 234-224
designator X?, comment WAGO Cage Clamp
MPN: 234-224; OC_FARNELL: unknown; OC_NEWARK: 28K9102
footprint 234-224
pins: A1 -1, A2 -2, A3 -3, A4 -4, A5 -5, A6 -6, A7 -7, A8 -8, A9 -9, A10 -10, A11 -11, A12 -12, A13 -13, A14 -14, A15 -15, A16 -16, A17 -17, A18 -18, A19 -19, A20 -20, A21 -21, A22 -22, A23 -23, A24 -24, B1 B-1, B2 B-2, B3 B-3, B4 B-4, B5 B-5, B6 B-6, B7 B-7, B8 B-8, B9 B-9, B10 B-10, B11 B-11, B12 B-12, B13 B-13, B14 B-14, B15 B-15, B16 B-16, B17 B-17, B18 B-18, B19 B-19, B20 B-20, B21 B-21, B22 B-22, B23 B-23, B24 B-24

## 234-236
designator X?, comment WAGO Cage Clamp
MPN: 234-236; OC_FARNELL: unknown; OC_NEWARK: 28K9103
footprint 234-236
pins: A1 -1, A2 -2, A3 -3, A4 -4, A5 -5, A6 -6, A7 -7, A8 -8, A9 -9, A10 -10, A11 -11, A12 -12, A13 -13, A14 -14, A15 -15, A16 -16, A17 -17, A18 -18, A19 -19, A20 -20, A21 -21, A22 -22, A23 -23, A24 -24, A25 -25, A26 -26, A27 -27, A28 -28, A29 -29, A30 -30, A31 -31, A32 -32, A33 -33, A34 -34, A35 -35, A36 -36, B1 B-1, B2 B-2, B3 B-3, B4 B-4, B5 B-5, B6 B-6, B7 B-7, B8 B-8, B9 B-9, B10 B-10, B11 B-11, B12 B-12, B13 B-13, B14 B-14, B15 B-15, B16 B-16, B17 B-17, B18 B-18, B19 B-19, B20 B-20, B21 B-21, B22 B-22, B23 B-23, B24 B-24, B25 B-25, B26 B-26, B27 B-27, B28 B-28, B29 B-29, B30 B-30, B31 B-31, B32 B-32, B33 B-33, B34 B-34, B35 B-35, B36 B-36

## 234-248
designator X?, comment WAGO Cage Clamp
MPN: 234-248; OC_FARNELL: unknown; OC_NEWARK: 28K9104
footprint 234-248
pins: A1 -1, A2 -2, A3 -3, A4 -4, A5 -5, A6 -6, A7 -7, A8 -8, A9 -9, A10 -10, A11 -11, A12 -12, A13 -13, A14 -14, A15 -15, A16 -16, A17 -17, A18 -18, A19 -19, A20 -20, A21 -21, A22 -22, A23 -23, A24 -24, A25 -25, A26 -26, A27 -27, A28 -28, A29 -29, A30 -30, A31 -31, A32 -32, A33 -33, A34 -34, A35 -35, A36 -36, A37 -37, A38 -38, A39 -39, A40 -40, A41 -41, A42 -42, A43 -43, A44 -44, A45 -45, A46 -46, A47 -47, A48 -48, B1 B-1, B2 B-2, B3 B-3, B4 B-4, B5 B-5, B6 B-6, B7 B-7, B8 B-8, B9 B-9, B10 B-10, B11 B-11, B12 B-12, B13 B-13, B14 B-14, B15 B-15, B16 B-16, B17 B-17, B18 B-18, B19 B-19, B20 B-20, B21 B-21, B22 B-22, B23 B-23, B24 B-24, B25 B-25, B26 B-26, B27 B-27, B28 B-28, B29 B-29, B30 B-30, B31 B-31, B32 B-32, B33 B-33, B34 B-34, B35 B-35, B36 B-36, B37 B-37, B38 B-38, B39 B-39, B40 B-40, B41 B-41, B42 B-42, B43 B-43, B44 B-44, B45 B-45, B46 B-46, B47 B-47, B48 B-48

## 234-502
designator X?, comment WAGO Cage Clamp
MPN: 234-502; OC_FARNELL: 1777106; OC_NEWARK: 28K9105
footprint 234-502
pins: A1 -1, A2 -2, B1 B-1, B2 B-2

## 234-503
designator X?, comment WAGO Cage Clamp
MPN: 234-503; OC_FARNELL: unknown; OC_NEWARK: 28K9106
footprint 234-503
pins: A1 -1, A2 -2, A3 -3, B1 B-1, B2 B-2, B3 B-3

## 234-504
designator X?, comment WAGO Cage Clamp
MPN: 234-504; OC_FARNELL: unknown; OC_NEWARK: 28K9107
footprint 234-504
pins: A1 -1, A2 -2, A3 -3, A4 -4, B1 B-1, B2 B-2, B3 B-3, B4 B-4

## 234-505
designator X?, comment WAGO Cage Clamp
MPN: 234-505; OC_FARNELL: unknown; OC_NEWARK: 28K9108
footprint 234-505
pins: A1 -1, A2 -2, A3 -3, A4 -4, A5 -5, B1 B-1, B2 B-2, B3 B-3, B4 B-4, B5 B-5

## 234-506
designator X?, comment WAGO Cage Clamp
MPN: 234-506; OC_FARNELL: unknown; OC_NEWARK: 28K9109
footprint 234-506
pins: A1 -1, A2 -2, A3 -3, A4 -4, A5 -5, A6 -6, B1 B-1, B2 B-2, B3 B-3, B4 B-4, B5 B-5, B6 B-6

## 234-507
designator X?, comment WAGO Cage Clamp
MPN: 234-507; OC_FARNELL: unknown; OC_NEWARK: 28K9110
footprint 234-507
pins: A1 -1, A2 -2, A3 -3, A4 -4, A5 -5, A6 -6, A7 -7, B1 B-1, B2 B-2, B3 B-3, B4 B-4, B5 B-5, B6 B-6, B7 B-7

## 234-508
designator X?, comment WAGO Cage Clamp
MPN: 234-508; OC_FARNELL: 1777107; OC_NEWARK: 28K9111
footprint 234-508
pins: A1 -1, A2 -2, A3 -3, A4 -4, A5 -5, A6 -6, A7 -7, A8 -8, B1 B-1, B2 B-2, B3 B-3, B4 B-4, B5 B-5, B6 B-6, B7 B-7, B8 B-8

## 234-509
designator X?, comment WAGO Cage Clamp
MPN: 234-509; OC_FARNELL: unknown; OC_NEWARK: 28K9112
footprint 234-509
pins: A1 -1, A2 -2, A3 -3, A4 -4, A5 -5, A6 -6, A7 -7, A8 -8, A9 -9, B1 B-1, B2 B-2, B3 B-3, B4 B-4, B5 B-5, B6 B-6, B7 B-7, B8 B-8, B9 B-9

## 234-510
designator X?, comment WAGO Cage Clamp
MPN: 234-510; OC_FARNELL: unknown; OC_NEWARK: 28K9113
footprint 234-510
pins: A1 -1, A2 -2, A3 -3, A4 -4, A5 -5, A6 -6, A7 -7, A8 -8, A9 -9, A10 -10, B1 B-1, B2 B-2, B3 B-3, B4 B-4, B5 B-5, B6 B-6, B7 B-7, B8 B-8, B9 B-9, B10 B-10

## 234-512
designator X?, comment WAGO Cage Clamp
MPN: 234-512; OC_FARNELL: unknown; OC_NEWARK: 28K9114
footprint 234-512
pins: A1 -1, A2 -2, A3 -3, A4 -4, A5 -5, A6 -6, A7 -7, A8 -8, A9 -9, A10 -10, A11 -11, A12 -12, B1 B-1, B2 B-2, B3 B-3, B4 B-4, B5 B-5, B6 B-6, B7 B-7, B8 B-8, B9 B-9, B10 B-10, B11 B-11, B12 B-12

## 234-516
designator X?, comment WAGO Cage Clamp
MPN: 234-516; OC_FARNELL: unknown; OC_NEWARK: 28K9115
footprint 234-516
pins: A1 -1, A2 -2, A3 -3, A4 -4, A5 -5, A6 -6, A7 -7, A8 -8, A9 -9, A10 -10, A11 -11, A12 -12, A13 -13, A14 -14, A15 -15, A16 -16, B1 B-1, B2 B-2, B3 B-3, B4 B-4, B5 B-5, B6 B-6, B7 B-7, B8 B-8, B9 B-9, B10 B-10, B11 B-11, B12 B-12, B13 B-13, B14 B-14, B15 B-15, B16 B-16

## 234-524
designator X?, comment WAGO Cage Clamp
MPN: 234-524; OC_FARNELL: unknown; OC_NEWARK: 28K9116
footprint 234-524
pins: A1 -1, A2 -2, A3 -3, A4 -4, A5 -5, A6 -6, A7 -7, A8 -8, A9 -9, A10 -10, A11 -11, A12 -12, A13 -13, A14 -14, A15 -15, A16 -16, A17 -17, A18 -18, A19 -19, A20 -20, A21 -21, A22 -22, A23 -23, A24 -24, B1 B-1, B2 B-2, B3 B-3, B4 B-4, B5 B-5, B6 B-6, B7 B-7, B8 B-8, B9 B-9, B10 B-10, B11 B-11, B12 B-12, B13 B-13, B14 B-14, B15 B-15, B16 B-16, B17 B-17, B18 B-18, B19 B-19, B20 B-20, B21 B-21, B22 B-22, B23 B-23, B24 B-24

## 234-536
designator X?, comment WAGO Cage Clamp
MPN: 234-536; OC_FARNELL: unknown; OC_NEWARK: 28K9117
footprint 234-536
pins: A1 -1, A2 -2, A3 -3, A4 -4, A5 -5, A6 -6, A7 -7, A8 -8, A9 -9, A10 -10, A11 -11, A12 -12, A13 -13, A14 -14, A15 -15, A16 -16, A17 -17, A18 -18, A19 -19, A20 -20, A21 -21, A22 -22, A23 -23, A24 -24, A25 -25, A26 -26, A27 -27, A28 -28, A29 -29, A30 -30, A31 -31, A32 -32, A33 -33, A34 -34, A35 -35, A36 -36, B1 B-1, B2 B-2, B3 B-3, B4 B-4, B5 B-5, B6 B-6, B7 B-7, B8 B-8, B9 B-9, B10 B-10, B11 B-11, B12 B-12, B13 B-13, B14 B-14, B15 B-15, B16 B-16, B17 B-17, B18 B-18, B19 B-19, B20 B-20, B21 B-21, B22 B-22, B23 B-23, B24 B-24, B25 B-25, B26 B-26, B27 B-27, B28 B-28, B29 B-29, B30 B-30, B31 B-31, B32 B-32, B33 B-33, B34 B-34, B35 B-35, B36 B-36

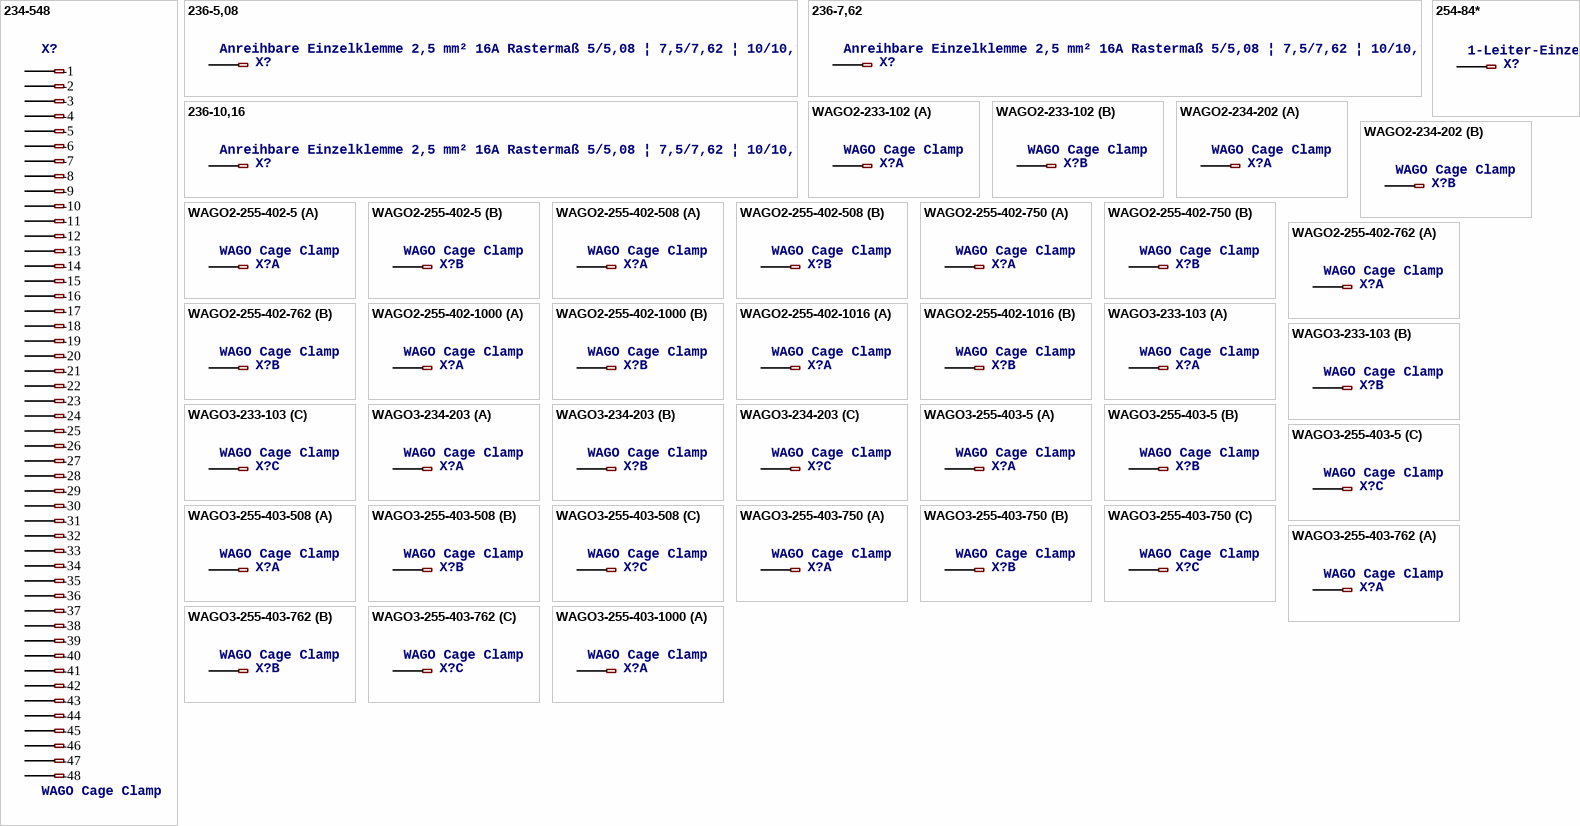
[diagram p3: symbols 234-548 to WAGO3-255-403-1000]

## 234-548
designator X?, comment WAGO Cage Clamp
MPN: 234-548; OC_FARNELL: unknown; OC_NEWARK: 28K9118
footprint 234-548
pins: A1 -1, A2 -2, A3 -3, A4 -4, A5 -5, A6 -6, A7 -7, A8 -8, A9 -9, A10 -10, A11 -11, A12 -12, A13 -13, A14 -14, A15 -15, A16 -16, A17 -17, A18 -18, A19 -19, A20 -20, A21 -21, A22 -22, A23 -23, A24 -24, A25 -25, A26 -26, A27 -27, A28 -28, A29 -29, A30 -30, A31 -31, A32 -32, A33 -33, A34 -34, A35 -35, A36 -36, A37 -37, A38 -38, A39 -39, A40 -40, A41 -41, A42 -42, A43 -43, A44 -44, A45 -45, A46 -46, A47 -47, A48 -48, B1 B-1, B2 B-2, B3 B-3, B4 B-4, B5 B-5, B6 B-6, B7 B-7, B8 B-8, B9 B-9, B10 B-10, B11 B-11, B12 B-12, B13 B-13, B14 B-14, B15 B-15, B16 B-16, B17 B-17, B18 B-18, B19 B-19, B20 B-20, B21 B-21, B22 B-22, B23 B-23, B24 B-24, B25 B-25, B26 B-26, B27 B-27, B28 B-28, B29 B-29, B30 B-30, B31 B-31, B32 B-32, B33 B-33, B34 B-34, B35 B-35, B36 B-36, B37 B-37, B38 B-38, B39 B-39, B40 B-40, B41 B-41, B42 B-42, B43 B-43, B44 B-44, B45 B-45, B46 B-46, B47 B-47, B48 B-48

## 236-5,08
designator X?, comment Anreihbare Einzelklemme 2,5 mm² 16A Rastermaß 5/5,08 | 7,5/7,62 | 10/10,16
footprint 236-4XX
pins: 1@1 A1, 1@2 B1

## 236-7,62
designator X?, comment Anreihbare Einzelklemme 2,5 mm² 16A Rastermaß 5/5,08 | 7,5/7,62 | 10/10,16
footprint 236-5XX
pins: 1@1 A1, 1@2 B1

## 236-10,16
designator X?, comment Anreihbare Einzelklemme 2,5 mm² 16A Rastermaß 5/5,08 | 7,5/7,62 | 10/10,16
footprint 236-6XX
pins: 1@1 A1, 1@2 B1

## 254-84*
designator X?, comment 1-Leiter-Einzelklemme für Leiterplatten 2 Lötstifte/Pol 1-polig    Source: http://www.wagocatalog.com
MPN: 254-843; MPN: 254-844; MPN: 254-846; MPN: 254-847; OC_FARNELL: unknown; OC_NEWARK: unknown; OC_NEWARK: 16M4399; OC_NEWARK: 16M4434; OC_NEWARK: 16M4409; OC_NEWARK: 76R3449
footprint 254-842
pins: 1@1 A1, 1@2 B1

## WAGO2-233-102
designator X?, comment WAGO Cage Clamp
MPN: 233-102; OC_FARNELL: unknown; OC_NEWARK: 28K9044
footprint 233-102
part A pins: A1, B1
part B pins: A2 A1, B2 B1

## WAGO2-234-202
designator X?, comment WAGO Cage Clamp
MPN: 234-202; OC_FARNELL: unknown; OC_NEWARK: 28K9091
footprint 234-202
part A pins: A1, B1
part B pins: A2 A1, B2 B1

## WAGO2-255-402-5
designator X?, comment WAGO Cage Clamp
MPN: 255-402; OC_FARNELL: 1530438; OC_NEWARK: 28K9764
footprint 255-402-5
part A pins: A1, B1
part B pins: A2 A1, B2 B1

## WAGO2-255-402-508
designator X?, comment WAGO Cage Clamp
OC_FARNELL: unknown; OC_NEWARK: unknown
footprint 255-402-508
part A pins: A1, B1
part B pins: A2 A1, B2 B1

## WAGO2-255-402-750
designator X?, comment WAGO Cage Clamp
OC_FARNELL: unknown; OC_NEWARK: unknown
footprint 255-402-750
part A pins: A1, B1
part B pins: A2 A1, B2 B1

## WAGO2-255-402-762
designator X?, comment WAGO Cage Clamp
OC_FARNELL: unknown; OC_NEWARK: unknown
footprint 255-402-762
part A pins: A1, B1
part B pins: A2 A1, B2 B1

## WAGO2-255-402-1000
designator X?, comment WAGO Cage Clamp
OC_FARNELL: unknown; OC_NEWARK: unknown
footprint 255-402-1000
part A pins: A1, B1
part B pins: A2 A1, B2 B1

## WAGO2-255-402-1016
designator X?, comment WAGO Cage Clamp
OC_FARNELL: unknown; OC_NEWARK: unknown
footprint 255-402-1016
part A pins: A1, B1
part B pins: A2 A1, B2 B1

## WAGO3-233-103
designator X?, comment WAGO Cage Clamp
MPN: 233-103; OC_FARNELL: unknown; OC_NEWARK: 28K9045
footprint 233-103
part A pins: A1, B1
part B pins: A2 A1, B2 B1
part C pins: A3 A1, B3 B1

## WAGO3-234-203
designator X?, comment WAGO Cage Clamp
MPN: 234-203; OC_FARNELL: unknown; OC_NEWARK: 28K9092
footprint 234-203
part A pins: A1, B1
part B pins: A2 A1, B2 B1
part C pins: A3 A1, B3 B1

## WAGO3-255-403-5
designator X?, comment WAGO Cage Clamp
MPN: 255-403; OC_FARNELL: unknown; OC_NEWARK: 28K9767
footprint 255-403-5
part A pins: A1, B1
part B pins: A2 A1, B2 B1
part C pins: A3 A1, B3 B1

## WAGO3-255-403-508
designator X?, comment WAGO Cage Clamp
OC_FARNELL: unknown; OC_NEWARK: unknown
footprint 255-403-508
part A pins: A1, B1
part B pins: A2 A1, B2 B1
part C pins: A3 A1, B3 B1

## WAGO3-255-403-750
designator X?, comment WAGO Cage Clamp
OC_FARNELL: unknown; OC_NEWARK: unknown
footprint 255-403-750
part A pins: A1, B1
part B pins: A2 A1, B2 B1
part C pins: A3 A1, B3 B1

## WAGO3-255-403-762
designator X?, comment WAGO Cage Clamp
OC_FARNELL: unknown; OC_NEWARK: unknown
footprint 255-403-762
part A pins: A1, B1
part B pins: A2 A1, B2 B1
part C pins: A3 A1, B3 B1

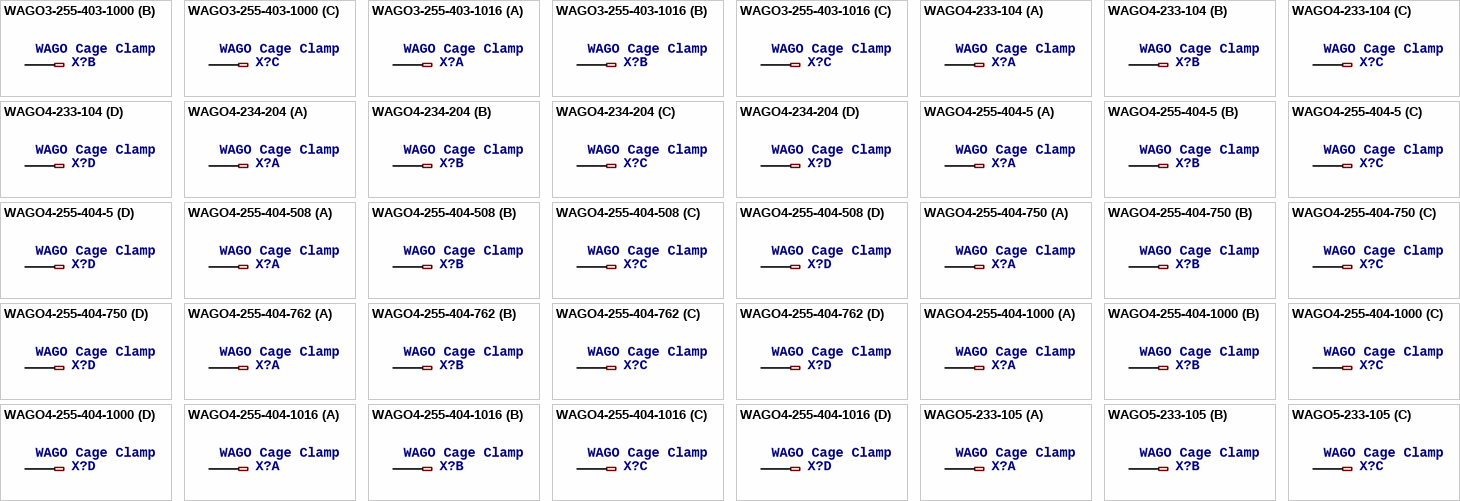
[diagram p4: symbols WAGO3-255-403-1000 to WAGO5-233-105]

## WAGO3-255-403-1000
designator X?, comment WAGO Cage Clamp
OC_FARNELL: unknown; OC_NEWARK: unknown
footprint 255-403-1000
part A pins: A1, B1
part B pins: A2 A1, B2 B1
part C pins: A3 A1, B3 B1

## WAGO3-255-403-1016
designator X?, comment WAGO Cage Clamp
OC_FARNELL: unknown; OC_NEWARK: unknown
footprint 255-403-1016
part A pins: A1, B1
part B pins: A2 A1, B2 B1
part C pins: A3 A1, B3 B1

## WAGO4-233-104
designator X?, comment WAGO Cage Clamp
MPN: 233-104; OC_FARNELL: unknown; OC_NEWARK: 28K9046
footprint 233-104
part A pins: A1, B1
part B pins: A2 A1, B2 B1
part C pins: A3 A1, B3 B1
part D pins: A4 A1, B4 B1

## WAGO4-234-204
designator X?, comment WAGO Cage Clamp
MPN: 234-204; OC_FARNELL: unknown; OC_NEWARK: 28K9093
footprint 234-204
part A pins: A1, B1
part B pins: A2 A1, B2 B1
part C pins: A3 A1, B3 B1
part D pins: A4 A1, B4 B1

## WAGO4-255-404-5
designator X?, comment WAGO Cage Clamp
MPN: 255-404; OC_FARNELL: unknown; OC_NEWARK: 28K9768
footprint 255-404-5
part A pins: A1, B1
part B pins: A2 A1, B2 B1
part C pins: A3 A1, B3 B1
part D pins: A4 A1, B4 B1

## WAGO4-255-404-508
designator X?, comment WAGO Cage Clamp
OC_FARNELL: unknown; OC_NEWARK: unknown
footprint 255-404-508
part A pins: A1, B1
part B pins: A2 A1, B2 B1
part C pins: A3 A1, B3 B1
part D pins: A4 A1, B4 B1

## WAGO4-255-404-750
designator X?, comment WAGO Cage Clamp
OC_FARNELL: unknown; OC_NEWARK: unknown
footprint 255-404-750
part A pins: A1, B1
part B pins: A2 A1, B2 B1
part C pins: A3 A1, B3 B1
part D pins: A4 A1, B4 B1

## WAGO4-255-404-762
designator X?, comment WAGO Cage Clamp
OC_FARNELL: unknown; OC_NEWARK: unknown
footprint 255-404-762
part A pins: A1, B1
part B pins: A2 A1, B2 B1
part C pins: A3 A1, B3 B1
part D pins: A4 A1, B4 B1

## WAGO4-255-404-1000
designator X?, comment WAGO Cage Clamp
OC_FARNELL: unknown; OC_NEWARK: unknown
footprint 255-404-1000
part A pins: A1, B1
part B pins: A2 A1, B2 B1
part C pins: A3 A1, B3 B1
part D pins: A4 A1, B4 B1

## WAGO4-255-404-1016
designator X?, comment WAGO Cage Clamp
OC_FARNELL: unknown; OC_NEWARK: unknown
footprint 255-404-1016
part A pins: A1, B1
part B pins: A2 A1, B2 B1
part C pins: A3 A1, B3 B1
part D pins: A4 A1, B4 B1

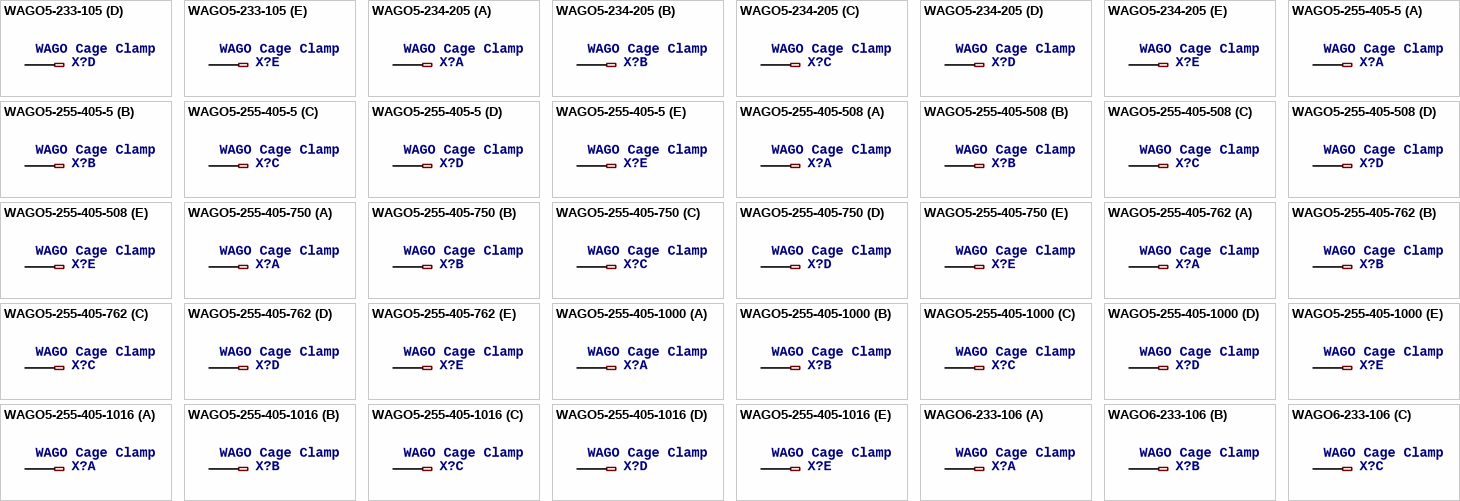
[diagram p5: symbols WAGO5-233-105 to WAGO6-233-106]

## WAGO5-233-105
designator X?, comment WAGO Cage Clamp
MPN: 233-105; OC_FARNELL: unknown; OC_NEWARK: 28K9047
footprint 233-105
part A pins: A1, B1
part B pins: A2 A1, B2 B1
part C pins: A3 A1, B3 B1
part D pins: A4 A1, B4 B1
part E pins: A5 A1, B5 B1

## WAGO5-234-205
designator X?, comment WAGO Cage Clamp
MPN: 234-205; OC_FARNELL: unknown; OC_NEWARK: 28K9094
footprint 234-205
part A pins: A1, B1
part B pins: A2 A1, B2 B1
part C pins: A3 A1, B3 B1
part D pins: A4 A1, B4 B1
part E pins: A5 A1, B5 B1

## WAGO5-255-405-5
designator X?, comment WAGO Cage Clamp
MPN: 255-405; OC_FARNELL: unknown; OC_NEWARK: 28K9769
footprint 255-405-5
part A pins: A1, B1
part B pins: A2 A1, B2 B1
part C pins: A3 A1, B3 B1
part D pins: A4 A1, B4 B1
part E pins: A5 A1, B5 B1

## WAGO5-255-405-508
designator X?, comment WAGO Cage Clamp
OC_FARNELL: unknown; OC_NEWARK: unknown
footprint 255-405-508
part A pins: A1, B1
part B pins: A2 A1, B2 B1
part C pins: A3 A1, B3 B1
part D pins: A4 A1, B4 B1
part E pins: A5 A1, B5 B1

## WAGO5-255-405-750
designator X?, comment WAGO Cage Clamp
OC_FARNELL: unknown; OC_NEWARK: unknown
footprint 255-405-750
part A pins: A1, B1
part B pins: A2 A1, B2 B1
part C pins: A3 A1, B3 B1
part D pins: A4 A1, B4 B1
part E pins: A5 A1, B5 B1

## WAGO5-255-405-762
designator X?, comment WAGO Cage Clamp
OC_FARNELL: unknown; OC_NEWARK: unknown
footprint 255-405-762
part A pins: A1, B1
part B pins: A2 A1, B2 B1
part C pins: A3 A1, B3 B1
part D pins: A4 A1, B4 B1
part E pins: A5 A1, B5 B1

## WAGO5-255-405-1000
designator X?, comment WAGO Cage Clamp
OC_FARNELL: unknown; OC_NEWARK: unknown
footprint 255-405-1000
part A pins: A1, B1
part B pins: A2 A1, B2 B1
part C pins: A3 A1, B3 B1
part D pins: A4 A1, B4 B1
part E pins: A5 A1, B5 B1

## WAGO5-255-405-1016
designator X?, comment WAGO Cage Clamp
OC_FARNELL: unknown; OC_NEWARK: unknown
footprint 255-405-1016
part A pins: A1, B1
part B pins: A2 A1, B2 B1
part C pins: A3 A1, B3 B1
part D pins: A4 A1, B4 B1
part E pins: A5 A1, B5 B1

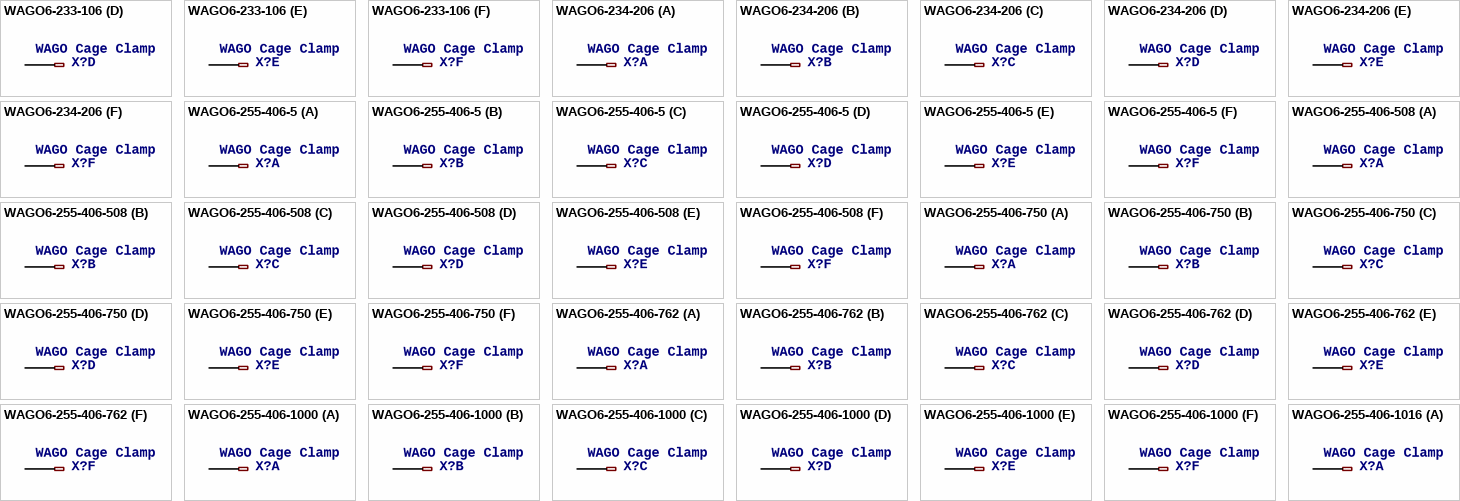
[diagram p6: symbols WAGO6-233-106 to WAGO6-255-406-1016]

## WAGO6-233-106
designator X?, comment WAGO Cage Clamp
MPN: 233-106; OC_FARNELL: unknown; OC_NEWARK: 28K9048
footprint 233-106
part A pins: A1, B1
part B pins: A2 A1, B2 B1
part C pins: A3 A1, B3 B1
part D pins: A4 A1, B4 B1
part E pins: A5 A1, B5 B1
part F pins: A6 A1, B6 B1

## WAGO6-234-206
designator X?, comment WAGO Cage Clamp
MPN: 234-206; OC_FARNELL: unknown; OC_NEWARK: 28K9095
footprint 234-206
part A pins: A1, B1
part B pins: A2 A1, B2 B1
part C pins: A3 A1, B3 B1
part D pins: A4 A1, B4 B1
part E pins: A5 A1, B5 B1
part F pins: A6 A1, B6 B1

## WAGO6-255-406-5
designator X?, comment WAGO Cage Clamp
MPN: 255-406; OC_FARNELL: unknown; OC_NEWARK: 28K9770
footprint 255-406-5
part A pins: A1, B1
part B pins: A2 A1, B2 B1
part C pins: A3 A1, B3 B1
part D pins: A4 A1, B4 B1
part E pins: A5 A1, B5 B1
part F pins: A6 A1, B6 B1

## WAGO6-255-406-508
designator X?, comment WAGO Cage Clamp
OC_FARNELL: unknown; OC_NEWARK: unknown
footprint 255-406-508
part A pins: A1, B1
part B pins: A2 A1, B2 B1
part C pins: A3 A1, B3 B1
part D pins: A4 A1, B4 B1
part E pins: A5 A1, B5 B1
part F pins: A6 A1, B6 B1

## WAGO6-255-406-750
designator X?, comment WAGO Cage Clamp
OC_FARNELL: unknown; OC_NEWARK: unknown
footprint 255-406-750
part A pins: A1, B1
part B pins: A2 A1, B2 B1
part C pins: A3 A1, B3 B1
part D pins: A4 A1, B4 B1
part E pins: A5 A1, B5 B1
part F pins: A6 A1, B6 B1

## WAGO6-255-406-762
designator X?, comment WAGO Cage Clamp
OC_FARNELL: unknown; OC_NEWARK: unknown
footprint 255-406-762
part A pins: A1, B1
part B pins: A2 A1, B2 B1
part C pins: A3 A1, B3 B1
part D pins: A4 A1, B4 B1
part E pins: A5 A1, B5 B1
part F pins: A6 A1, B6 B1

## WAGO6-255-406-1000
designator X?, comment WAGO Cage Clamp
OC_FARNELL: unknown; OC_NEWARK: unknown
footprint 255-406-1000
part A pins: A1, B1
part B pins: A2 A1, B2 B1
part C pins: A3 A1, B3 B1
part D pins: A4 A1, B4 B1
part E pins: A5 A1, B5 B1
part F pins: A6 A1, B6 B1

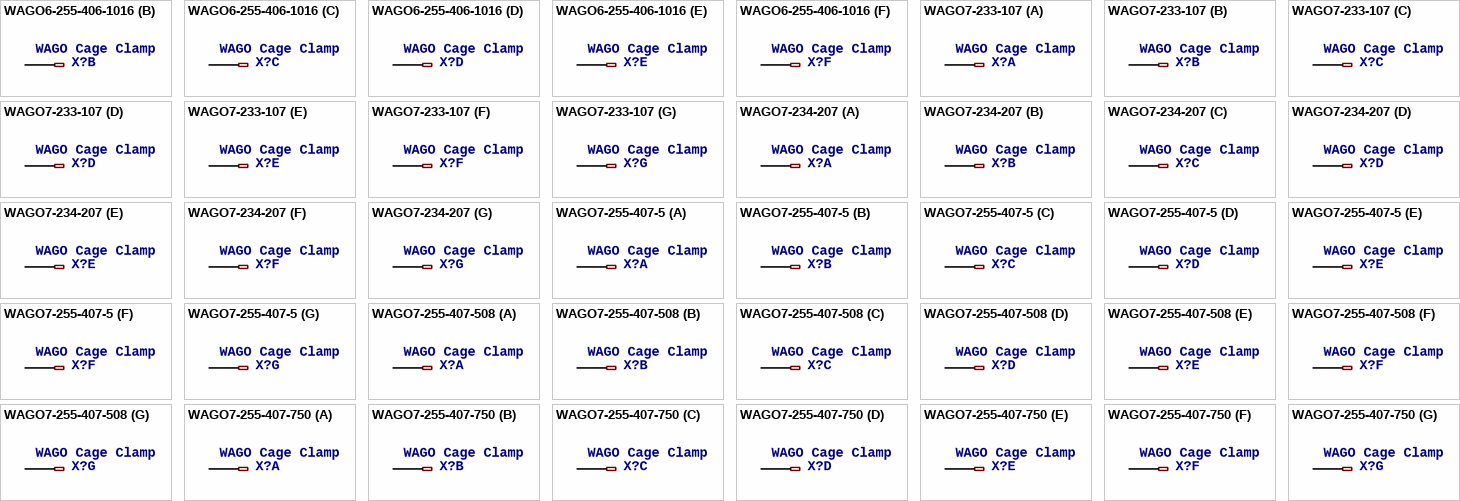
[diagram p7: symbols WAGO6-255-406-1016 to WAGO7-255-407-750]

## WAGO6-255-406-1016
designator X?, comment WAGO Cage Clamp
OC_FARNELL: unknown; OC_NEWARK: unknown
footprint 255-406-1016
part A pins: A1, B1
part B pins: A2 A1, B2 B1
part C pins: A3 A1, B3 B1
part D pins: A4 A1, B4 B1
part E pins: A5 A1, B5 B1
part F pins: A6 A1, B6 B1

## WAGO7-233-107
designator X?, comment WAGO Cage Clamp
MPN: 233-107; OC_FARNELL: unknown; OC_NEWARK: 28K9049
footprint 233-107
part A pins: A1, B1
part B pins: A2 A1, B2 B1
part C pins: A3 A1, B3 B1
part D pins: A4 A1, B4 B1
part E pins: A5 A1, B5 B1
part F pins: A6 A1, B6 B1
part G pins: A7 A1, B7 B1

## WAGO7-234-207
designator X?, comment WAGO Cage Clamp
MPN: 234-207; OC_FARNELL: unknown; OC_NEWARK: 28K9096
footprint 234-207
part A pins: A1, B1
part B pins: A2 A1, B2 B1
part C pins: A3 A1, B3 B1
part D pins: A4 A1, B4 B1
part E pins: A5 A1, B5 B1
part F pins: A6 A1, B6 B1
part G pins: A7 A1, B7 B1

## WAGO7-255-407-5
designator X?, comment WAGO Cage Clamp
MPN: 255-407; OC_FARNELL: unknown; OC_NEWARK: 28K9772
footprint 255-407-5
part A pins: A1, B1
part B pins: A2 A1, B2 B1
part C pins: A3 A1, B3 B1
part D pins: A4 A1, B4 B1
part E pins: A5 A1, B5 B1
part F pins: A6 A1, B6 B1
part G pins: A7 A1, B7 B1

## WAGO7-255-407-508
designator X?, comment WAGO Cage Clamp
OC_FARNELL: unknown; OC_NEWARK: unknown
footprint 255-407-508
part A pins: A1, B1
part B pins: A2 A1, B2 B1
part C pins: A3 A1, B3 B1
part D pins: A4 A1, B4 B1
part E pins: A5 A1, B5 B1
part F pins: A6 A1, B6 B1
part G pins: A7 A1, B7 B1

## WAGO7-255-407-750
designator X?, comment WAGO Cage Clamp
OC_FARNELL: unknown; OC_NEWARK: unknown
footprint 255-407-750
part A pins: A1, B1
part B pins: A2 A1, B2 B1
part C pins: A3 A1, B3 B1
part D pins: A4 A1, B4 B1
part E pins: A5 A1, B5 B1
part F pins: A6 A1, B6 B1
part G pins: A7 A1, B7 B1

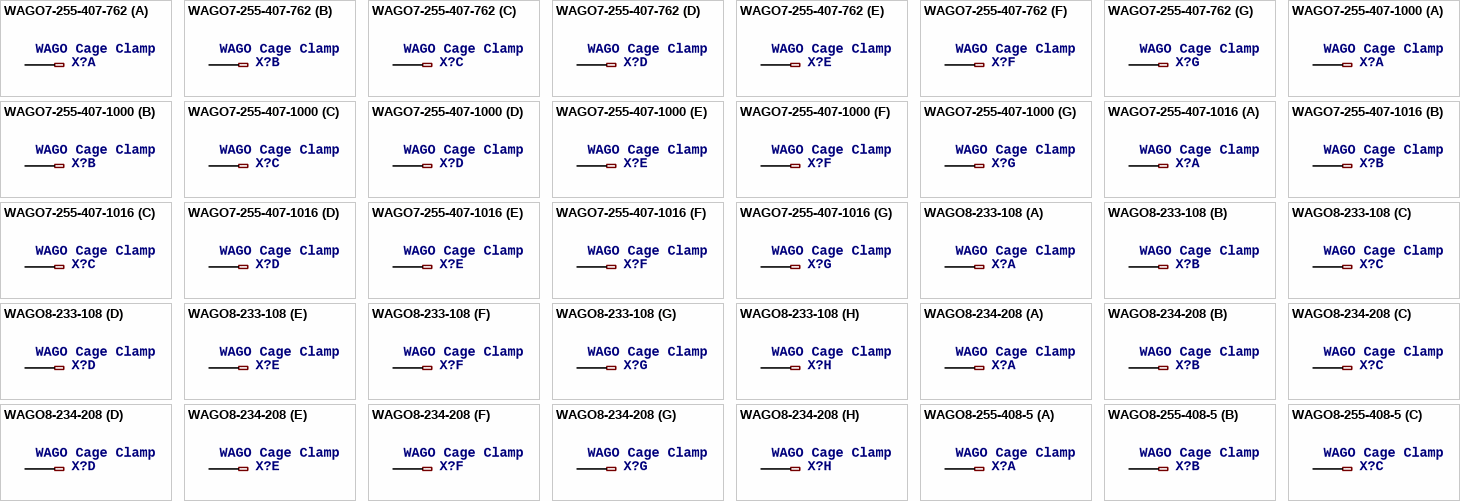
[diagram p8: symbols WAGO7-255-407-762 to WAGO8-255-408-5]

## WAGO7-255-407-762
designator X?, comment WAGO Cage Clamp
OC_FARNELL: unknown; OC_NEWARK: unknown
footprint 255-407-762
part A pins: A1, B1
part B pins: A2 A1, B2 B1
part C pins: A3 A1, B3 B1
part D pins: A4 A1, B4 B1
part E pins: A5 A1, B5 B1
part F pins: A6 A1, B6 B1
part G pins: A7 A1, B7 B1

## WAGO7-255-407-1000
designator X?, comment WAGO Cage Clamp
OC_FARNELL: unknown; OC_NEWARK: unknown
footprint 255-407-1000
part A pins: A1, B1
part B pins: A2 A1, B2 B1
part C pins: A3 A1, B3 B1
part D pins: A4 A1, B4 B1
part E pins: A5 A1, B5 B1
part F pins: A6 A1, B6 B1
part G pins: A7 A1, B7 B1

## WAGO7-255-407-1016
designator X?, comment WAGO Cage Clamp
OC_FARNELL: unknown; OC_NEWARK: unknown
footprint 255-407-1016
part A pins: A1, B1
part B pins: A2 A1, B2 B1
part C pins: A3 A1, B3 B1
part D pins: A4 A1, B4 B1
part E pins: A5 A1, B5 B1
part F pins: A6 A1, B6 B1
part G pins: A7 A1, B7 B1

## WAGO8-233-108
designator X?, comment WAGO Cage Clamp
MPN: 233-108; OC_FARNELL: unknown; OC_NEWARK: 28K9050
footprint 233-108
part A pins: A1, B1
part B pins: A2 A1, B2 B1
part C pins: A3 A1, B3 B1
part D pins: A4 A1, B4 B1
part E pins: A5 A1, B5 B1
part F pins: A6 A1, B6 B1
part G pins: A7 A1, B7 B1
part H pins: A8 A1, B8 B1

## WAGO8-234-208
designator X?, comment WAGO Cage Clamp
MPN: 234-208; OC_FARNELL: unknown; OC_NEWARK: 28K9097
footprint 234-208
part A pins: A1, B1
part B pins: A2 A1, B2 B1
part C pins: A3 A1, B3 B1
part D pins: A4 A1, B4 B1
part E pins: A5 A1, B5 B1
part F pins: A6 A1, B6 B1
part G pins: A7 A1, B7 B1
part H pins: A8 A1, B8 B1

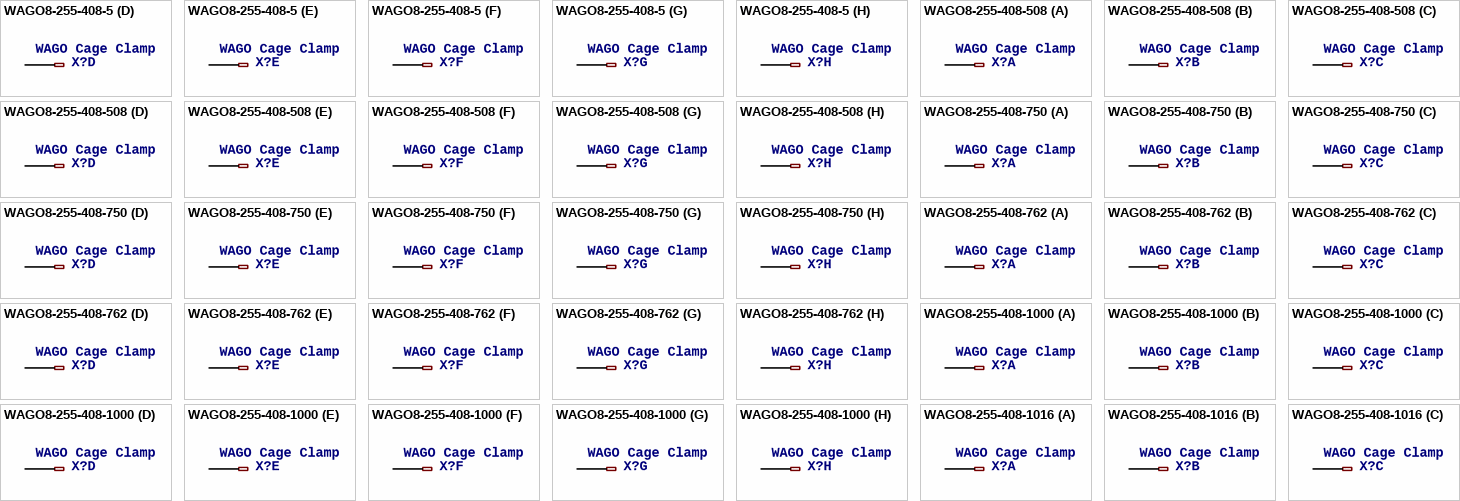
[diagram p9: symbols WAGO8-255-408-5 to WAGO8-255-408-1016]

## WAGO8-255-408-5
designator X?, comment WAGO Cage Clamp
MPN: 255-408; OC_FARNELL: unknown; OC_NEWARK: 28K9773
footprint 255-408-5
part A pins: A1, B1
part B pins: A2 A1, B2 B1
part C pins: A3 A1, B3 B1
part D pins: A4 A1, B4 B1
part E pins: A5 A1, B5 B1
part F pins: A6 A1, B6 B1
part G pins: A7 A1, B7 B1
part H pins: A8 A1, B8 B1

## WAGO8-255-408-508
designator X?, comment WAGO Cage Clamp
OC_FARNELL: unknown; OC_NEWARK: unknown
footprint 255-408-508
part A pins: A1, B1
part B pins: A2 A1, B2 B1
part C pins: A3 A1, B3 B1
part D pins: A4 A1, B4 B1
part E pins: A5 A1, B5 B1
part F pins: A6 A1, B6 B1
part G pins: A7 A1, B7 B1
part H pins: A8 A1, B8 B1

## WAGO8-255-408-750
designator X?, comment WAGO Cage Clamp
OC_FARNELL: unknown; OC_NEWARK: unknown
footprint 255-408-750
part A pins: A1, B1
part B pins: A2 A1, B2 B1
part C pins: A3 A1, B3 B1
part D pins: A4 A1, B4 B1
part E pins: A5 A1, B5 B1
part F pins: A6 A1, B6 B1
part G pins: A7 A1, B7 B1
part H pins: A8 A1, B8 B1

## WAGO8-255-408-762
designator X?, comment WAGO Cage Clamp
OC_FARNELL: unknown; OC_NEWARK: unknown
footprint 255-408-762
part A pins: A1, B1
part B pins: A2 A1, B2 B1
part C pins: A3 A1, B3 B1
part D pins: A4 A1, B4 B1
part E pins: A5 A1, B5 B1
part F pins: A6 A1, B6 B1
part G pins: A7 A1, B7 B1
part H pins: A8 A1, B8 B1

## WAGO8-255-408-1000
designator X?, comment WAGO Cage Clamp
OC_FARNELL: unknown; OC_NEWARK: unknown
footprint 255-408-1000
part A pins: A1, B1
part B pins: A2 A1, B2 B1
part C pins: A3 A1, B3 B1
part D pins: A4 A1, B4 B1
part E pins: A5 A1, B5 B1
part F pins: A6 A1, B6 B1
part G pins: A7 A1, B7 B1
part H pins: A8 A1, B8 B1

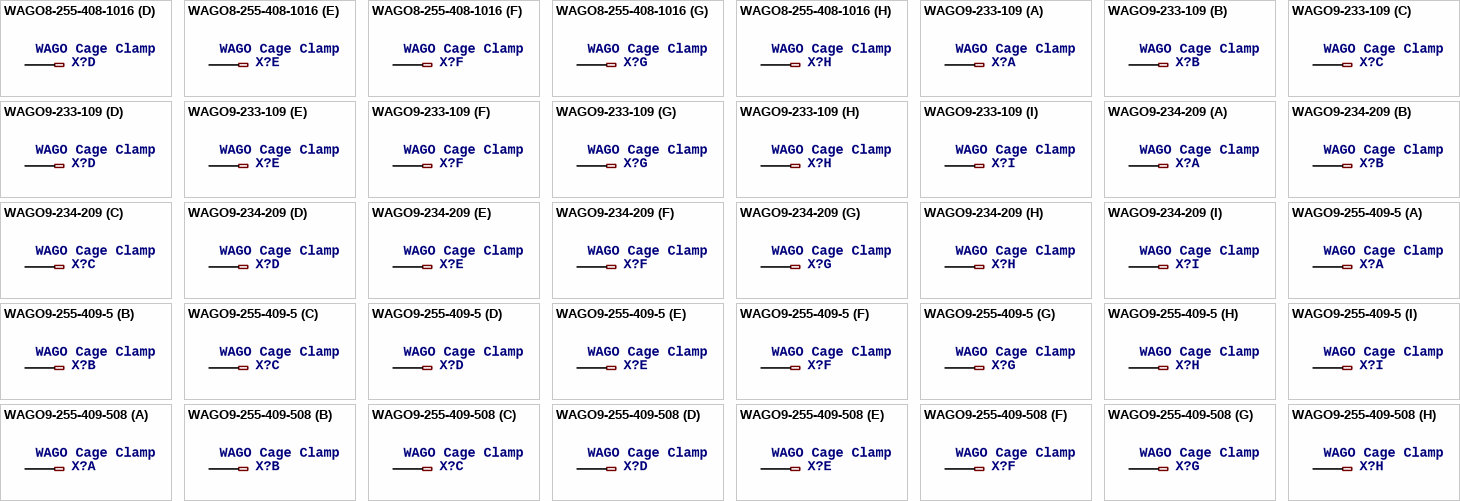
[diagram p10: symbols WAGO8-255-408-1016 to WAGO9-255-409-508]

## WAGO8-255-408-1016
designator X?, comment WAGO Cage Clamp
OC_FARNELL: unknown; OC_NEWARK: unknown
footprint 255-408-1016
part A pins: A1, B1
part B pins: A2 A1, B2 B1
part C pins: A3 A1, B3 B1
part D pins: A4 A1, B4 B1
part E pins: A5 A1, B5 B1
part F pins: A6 A1, B6 B1
part G pins: A7 A1, B7 B1
part H pins: A8 A1, B8 B1

## WAGO9-233-109
designator X?, comment WAGO Cage Clamp
MPN: 233-109; OC_FARNELL: unknown; OC_NEWARK: 28K9051
footprint 233-109
part A pins: A1, B1
part B pins: A2 A1, B2 B1
part C pins: A3 A1, B3 B1
part D pins: A4 A1, B4 B1
part E pins: A5 A1, B5 B1
part F pins: A6 A1, B6 B1
part G pins: A7 A1, B7 B1
part H pins: A8 A1, B8 B1
part I pins: A9 A1, B9 B1

## WAGO9-234-209
designator X?, comment WAGO Cage Clamp
MPN: 234-209; OC_FARNELL: unknown; OC_NEWARK: 28K9098
footprint 234-209
part A pins: A1, B1
part B pins: A2 A1, B2 B1
part C pins: A3 A1, B3 B1
part D pins: A4 A1, B4 B1
part E pins: A5 A1, B5 B1
part F pins: A6 A1, B6 B1
part G pins: A7 A1, B7 B1
part H pins: A8 A1, B8 B1
part I pins: A9 A1, B9 B1

## WAGO9-255-409-5
designator X?, comment WAGO Cage Clamp
MPN: 255-409; OC_FARNELL: unknown; OC_NEWARK: 28K9774
footprint 255-409-5
part A pins: A1, B1
part B pins: A2 A1, B2 B1
part C pins: A3 A1, B3 B1
part D pins: A4 A1, B4 B1
part E pins: A5 A1, B5 B1
part F pins: A6 A1, B6 B1
part G pins: A7 A1, B7 B1
part H pins: A8 A1, B8 B1
part I pins: A9 A1, B9 B1

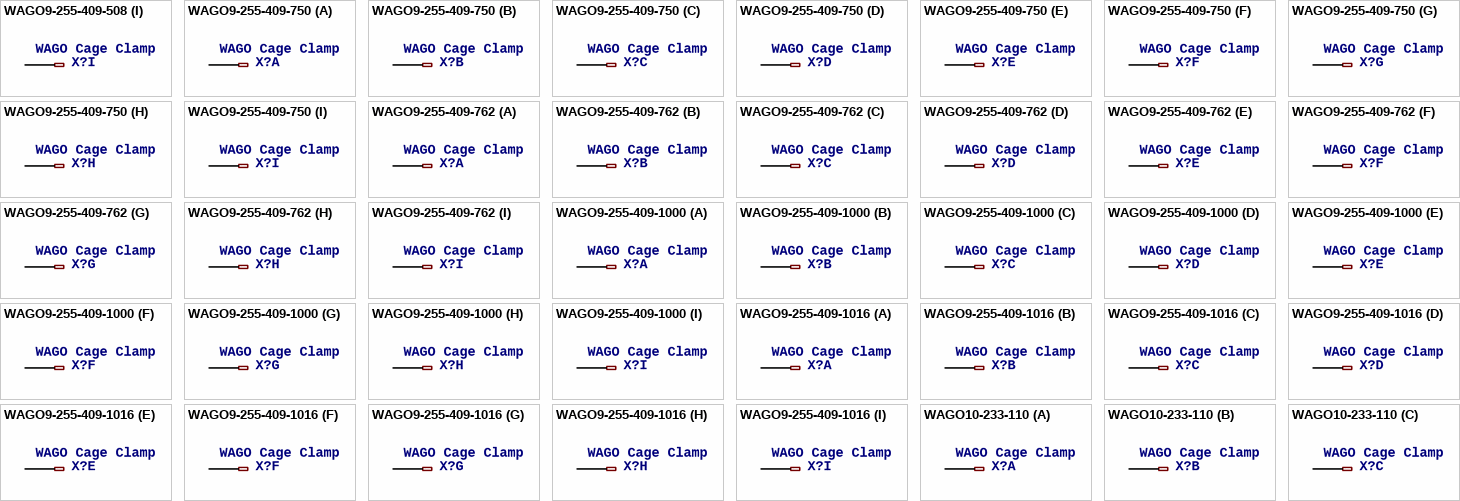
[diagram p11: symbols WAGO9-255-409-508 to WAGO10-233-110]

## WAGO9-255-409-508
designator X?, comment WAGO Cage Clamp
OC_FARNELL: unknown; OC_NEWARK: unknown
footprint 255-409-508
part A pins: A1, B1
part B pins: A2 A1, B2 B1
part C pins: A3 A1, B3 B1
part D pins: A4 A1, B4 B1
part E pins: A5 A1, B5 B1
part F pins: A6 A1, B6 B1
part G pins: A7 A1, B7 B1
part H pins: A8 A1, B8 B1
part I pins: A9 A1, B9 B1

## WAGO9-255-409-750
designator X?, comment WAGO Cage Clamp
OC_FARNELL: unknown; OC_NEWARK: unknown
footprint 255-409-750
part A pins: A1, B1
part B pins: A2 A1, B2 B1
part C pins: A3 A1, B3 B1
part D pins: A4 A1, B4 B1
part E pins: A5 A1, B5 B1
part F pins: A6 A1, B6 B1
part G pins: A7 A1, B7 B1
part H pins: A8 A1, B8 B1
part I pins: A9 A1, B9 B1

## WAGO9-255-409-762
designator X?, comment WAGO Cage Clamp
OC_FARNELL: unknown; OC_NEWARK: unknown
footprint 255-409-762
part A pins: A1, B1
part B pins: A2 A1, B2 B1
part C pins: A3 A1, B3 B1
part D pins: A4 A1, B4 B1
part E pins: A5 A1, B5 B1
part F pins: A6 A1, B6 B1
part G pins: A7 A1, B7 B1
part H pins: A8 A1, B8 B1
part I pins: A9 A1, B9 B1

## WAGO9-255-409-1000
designator X?, comment WAGO Cage Clamp
OC_FARNELL: unknown; OC_NEWARK: unknown
footprint 255-409-1000
part A pins: A1, B1
part B pins: A2 A1, B2 B1
part C pins: A3 A1, B3 B1
part D pins: A4 A1, B4 B1
part E pins: A5 A1, B5 B1
part F pins: A6 A1, B6 B1
part G pins: A7 A1, B7 B1
part H pins: A8 A1, B8 B1
part I pins: A9 A1, B9 B1

## WAGO9-255-409-1016
designator X?, comment WAGO Cage Clamp
OC_FARNELL: unknown; OC_NEWARK: unknown
footprint 255-409-1016
part A pins: A1, B1
part B pins: A2 A1, B2 B1
part C pins: A3 A1, B3 B1
part D pins: A4 A1, B4 B1
part E pins: A5 A1, B5 B1
part F pins: A6 A1, B6 B1
part G pins: A7 A1, B7 B1
part H pins: A8 A1, B8 B1
part I pins: A9 A1, B9 B1

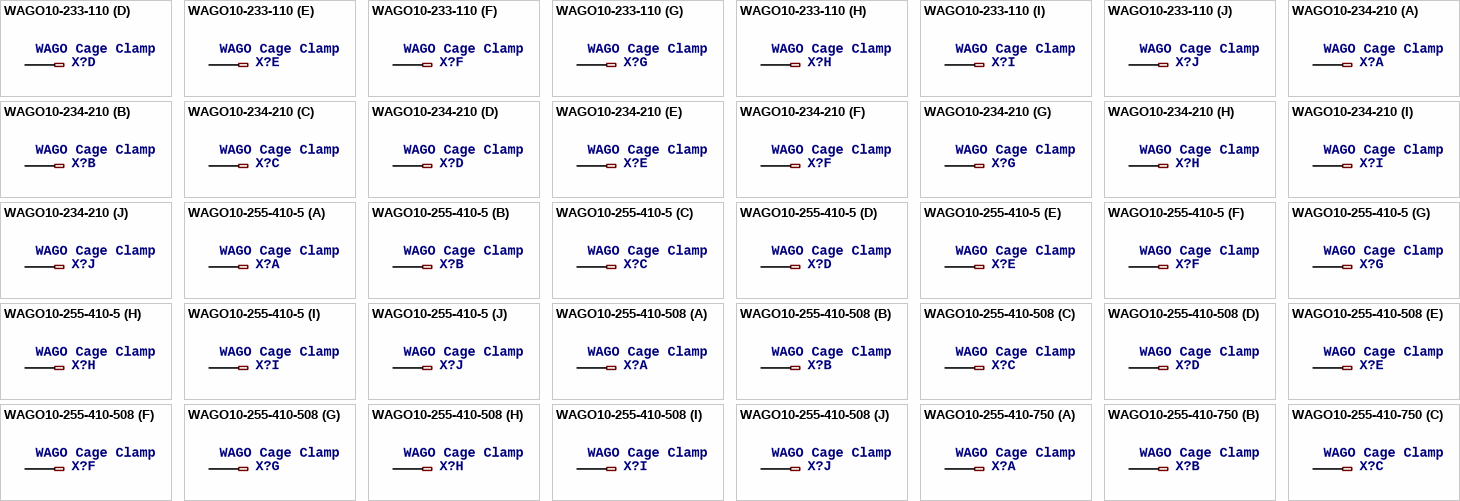
[diagram p12: symbols WAGO10-233-110 to WAGO10-255-410-750]

## WAGO10-233-110
designator X?, comment WAGO Cage Clamp
MPN: 233-110; OC_FARNELL: unknown; OC_NEWARK: 28K9052
footprint 233-110
part A pins: A1, B1
part B pins: A2 A1, B2 B1
part C pins: A3 A1, B3 B1
part D pins: A4 A1, B4 B1
part E pins: A5 A1, B5 B1
part F pins: A6 A1, B6 B1
part G pins: A7 A1, B7 B1
part H pins: A8 A1, B8 B1
part I pins: A9 A1, B9 B1
part J pins: A10 A1, B10 B1

## WAGO10-234-210
designator X?, comment WAGO Cage Clamp
MPN: 234-210; OC_FARNELL: unknown; OC_NEWARK: 28K9099
footprint 234-210
part A pins: A1, B1
part B pins: A2 A1, B2 B1
part C pins: A3 A1, B3 B1
part D pins: A4 A1, B4 B1
part E pins: A5 A1, B5 B1
part F pins: A6 A1, B6 B1
part G pins: A7 A1, B7 B1
part H pins: A8 A1, B8 B1
part I pins: A9 A1, B9 B1
part J pins: A10 A1, B10 B1

## WAGO10-255-410-5
designator X?, comment WAGO Cage Clamp
MPN: 255-410; OC_FARNELL: unknown; OC_NEWARK: 28K9775
footprint 255-410-5
part A pins: A1, B1
part B pins: A2 A1, B2 B1
part C pins: A3 A1, B3 B1
part D pins: A4 A1, B4 B1
part E pins: A5 A1, B5 B1
part F pins: A6 A1, B6 B1
part G pins: A7 A1, B7 B1
part H pins: A8 A1, B8 B1
part I pins: A9 A1, B9 B1
part J pins: A10 A1, B10 B1